# Altium schematic symbol library IC.SchLib: 282 symbols (part 1 of 3)
Pins are listed as number, name and electrical type; pins without a type are passive.

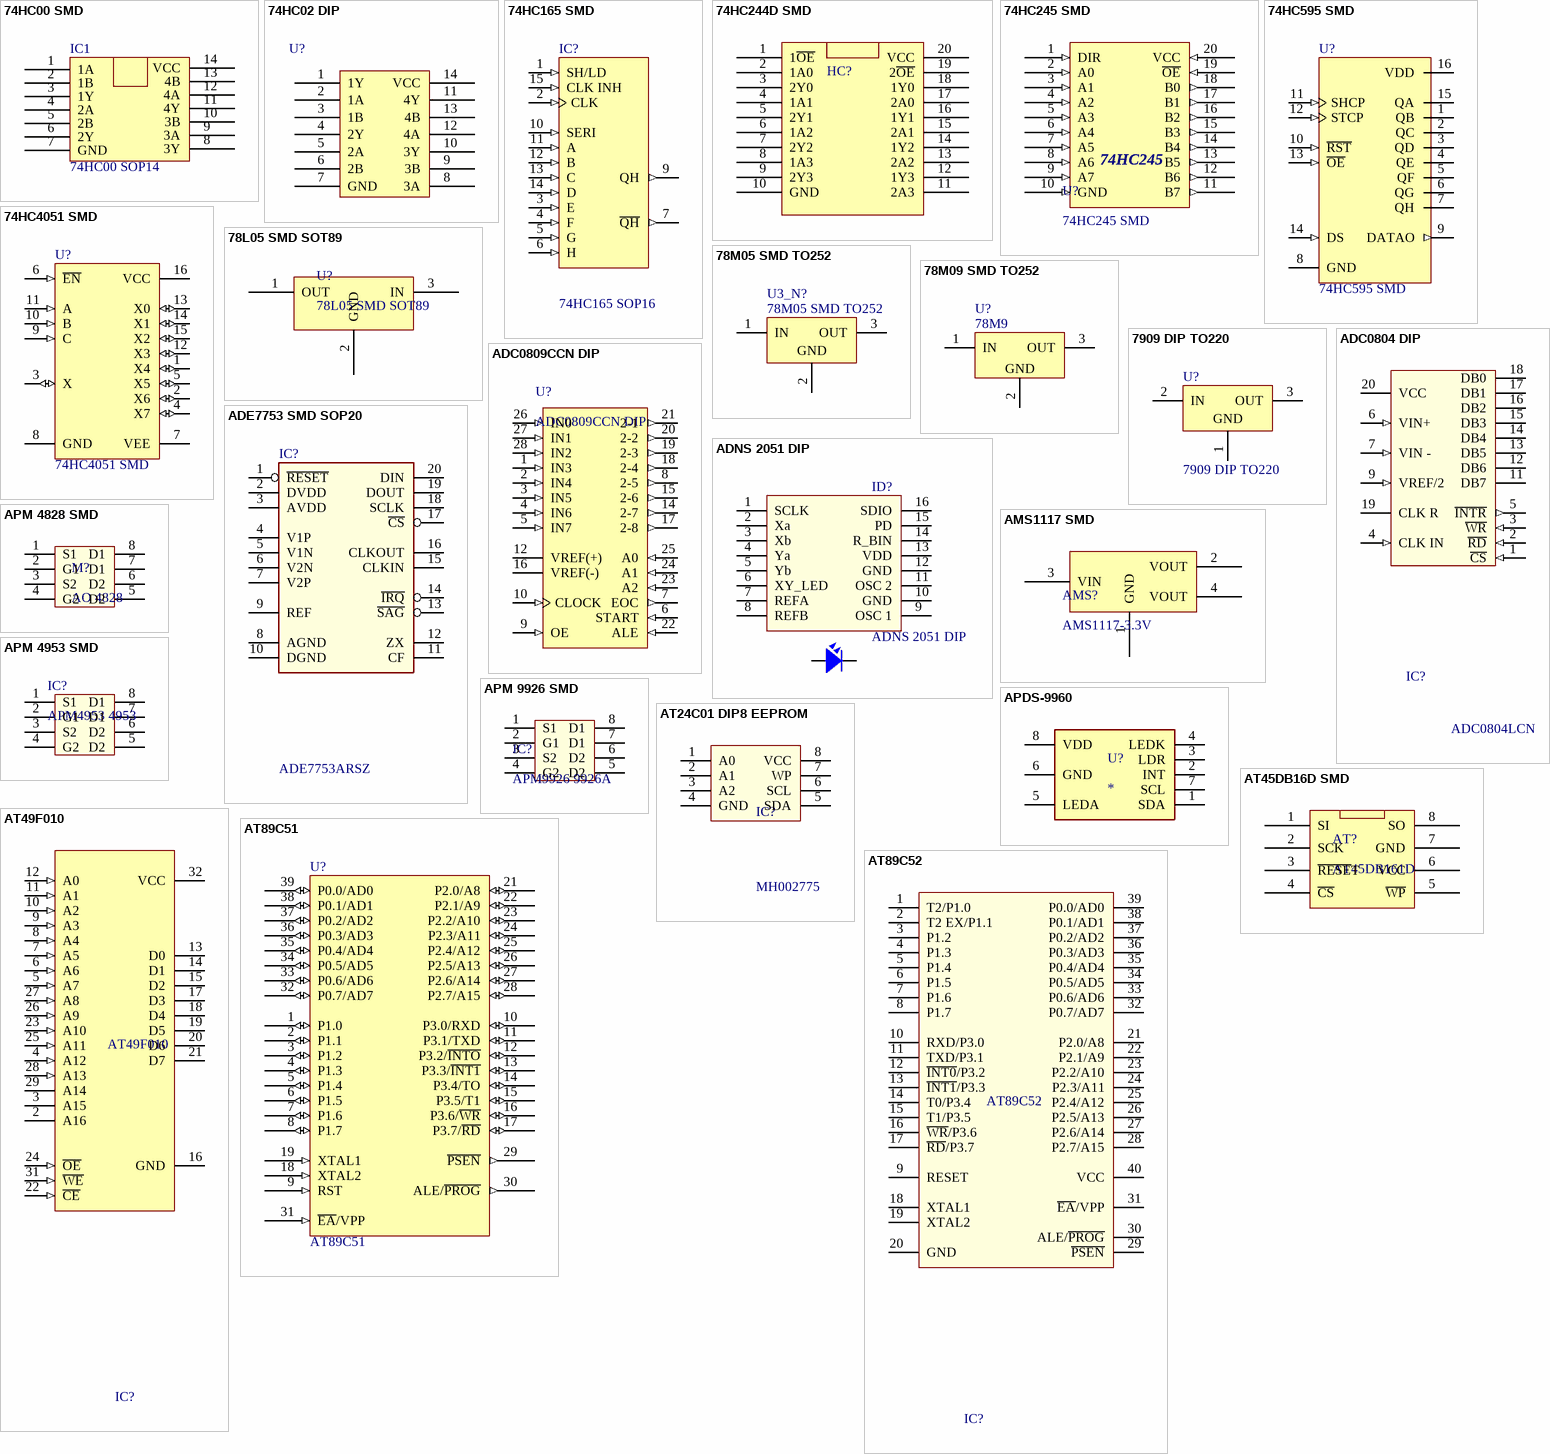
[diagram p0: symbols 74HC00 SMD to AT89C52]

## 74HC00 SMD
designator IC1, comment 74HC00 SOP14
Dán; Ten_Linh_Kien: 74HC00D SOP14; Ma_Hang: MH000703; Don_Vi: Con; Ghi_Chu: *; Kieu_Chan: *; Chung_Loai: Dán
footprint SOP 14 (SOIC, 14-Leads, Body 8.60x3.90mm, Pitch 1.27mm, IPC Medium Density)
pins: 1 1A, 2 1B, 3 1Y, 4 2A, 5 2B, 6 2Y, 7 GND, 8 3Y, 9 3A, 10 3B, 11 4Y, 12 4A, 13 4B, 14 VCC

## 74HC02 DIP
designator U?, comment 74HC02 DIP14  (value not drawn)
Cắm; Don_Vi: Con; Ma_Hang: MH001521; Ten_Linh_Kien: 74HC02 DIP14; Ghi_Chu: *; Kieu_Chan: *; Chung_Loai: Cắm
footprint dip14 (W.300/L.900)
pins: 1 1Y, 2 1A, 3 1B, 4 2Y, 5 2A, 6 2B, 7 GND, 8 3A, 9 3B, 10 3Y, 11 4Y, 12 4A, 13 4B, 14 VCC

## 74HC165 SMD
designator IC?, comment 74HC165 SOP16
Dán; Ten_Linh_Kien: 74HC165AG SMD; Don_Vi: Con; Ma_Hang: MH000710; Ghi_Chu: *; Kieu_Chan: *; Chung_Loai: Dán
footprint sop 16 (SOIC, 16-Leads, Body 9.90x3.91mm, Pitch 1.27mm, IPC Medium Density)
pins: 1 SH/LD (in), 2 CLK (in), 3 E (in), 4 F (in), 5 G (in), 6 H (in), 7 ~{QH} (out), 8 GND (power) hidden to GND, 9 QH (out), 10 SERI (in), 11 A (in), 12 B (in), 13 C (in), 14 D (in), 15 CLK INH (in), 16 VCC (power) hidden to VCC

## 74HC244D SMD
designator HC?, comment 74HC244D SOP20  (value not drawn)
Dán; Ma_Hang: MH002167; Don_Vi: Con; Ten_Linh_Kien: 74HC244D SOP20; Kieu_Chan: *; Ghi_Chu: *; Chung_Loai: Dán
footprint SIM808
pins: 1 1~{OE}, 2 1A0, 3 2Y0, 4 1A1, 5 2Y1, 6 1A2, 7 2Y2, 8 1A3, 9 2Y3, 10 GND, 11 2A3, 12 1Y3, 13 2A2, 14 1Y2, 15 2A1, 16 1Y1, 17 2A0, 18 1Y0, 19 2~{OE}, 20 VCC

## 74HC245 SMD
designator U?
Dán; Ten_Linh_Kien: 74HC245DW SSOP20 5.2MM; Don_Vi: Con; Ma_Hang: MH003571; Ghi_Chu: *; Kieu_Chan: *; Chung_Loai: Dán
footprint SOP 20 (SOIC, 20-Leads, Body 12.60x7.50mm, Pitch 1.27mm, IPC Medium Density)
pins: 1 DIR (in), 2 A0 (in), 3 A1 (in), 4 A2 (in), 5 A3 (in), 6 A4 (in), 7 A5 (in), 8 A6 (in), 9 A7 (in), 10 GND (in), 11 B7 (out), 12 B6 (out), 13 B5 (out), 14 B4 (out), 15 B3 (out), 16 B2 (out), 17 B1 (out), 18 B0 (out), 19 ~{OE} (in), 20 VCC (in)
text: 74HC245

## 74HC595 SMD
designator U?
Dán; Ten_Linh_Kien: 74HC595D SOP16; Don_Vi: Con; Ma_Hang: MH000672; Ghi_Chu: *; Kieu_Chan: *; Chung_Loai: Dán
footprint SOP 16 (SOIC, 16-Leads, Body 9.90x3.91mm, Pitch 1.27mm, IPC Medium Density)
pins: 1 QB (hiz), 2 QC (hiz), 3 QD (hiz), 4 QE (hiz), 5 QF (hiz), 6 QG (hiz), 7 QH (hiz), 8 GND (power), 9 DATAO (out), 10 ~{RST} (in), 11 SHCP (in), 12 STCP (in), 13 ~{OE} (in), 14 DS (in), 15 QA (hiz), 16 VDD (power)

## 74HC4051 SMD
designator U?
Dán; Ten_Linh_Kien: 74HC4051D 16SOIC; Don_Vi: Con; Ma_Hang: MH002284; Ghi_Chu: *; Kieu_Chan: *; Chung_Loai: Dán
footprint SOP 16 (SOIC, 16-Leads, Body 9.90x3.91mm, Pitch 1.27mm, IPC Medium Density)
pins: 1 X4 (io), 2 X6 (io), 3 X (io), 4 X7 (io), 5 X5 (io), 6 ~{EN} (in), 7 VEE (power), 8 GND (power), 9 C (in), 10 B (in), 11 A (in), 12 X3 (io), 13 X0 (io), 14 X1 (io), 15 X2 (io), 16 VCC (power)

## 78L05 SMD SOT89
designator U?
Dán; Ten_Linh_Kien: 78L05 SOT89 0.1A 5V; Don_Vi: Con; Ma_Hang: MH004845; Ghi_Chu: *; Kieu_Chan: *; Chung_Loai: Dán
footprint SOT89 (SOT89, 3-Leads, Body 4.55x2.55mm, Pitch 1.50mm, Lead Span 4.1mm, IPC Medium Density)
pins: 1 OUT, 2 GND, 3 IN

## 78M05 SMD TO252
designator U3_N?
Dán; Don_Vi: Con; Ten_Linh_Kien: 78M05 TO252; Ma_Hang: MH001917; Ghi_Chu: *; Kieu_Chan: *; Chung_Loai: Dán
footprint TO252
pins: 1 IN (power), 2 GND (power), 3 OUT (power)

## 78M09 SMD TO252
designator U?, comment 78M9
Dán; Ten_Linh_Kien: 78M09 TO252; Don_Vi: Con; Ma_Hang: MH004847; Ghi_Chu: *; Kieu_Chan: *; Chung_Loai: Dán
footprint TO252
pins: 1 IN (power), 2 GND (power), 3 OUT (power)

## 7909 DIP TO220
designator U?
Cắm; Ten_Linh_Kien: L7909CV TO220; Don_Vi: Con; Ma_Hang: MH005174; Ghi_Chu: *; Kieu_Chan: *; Chung_Loai: Cắm
footprint to220 (TO-220)
pins: 1 GND (power), 2 IN (power), 3 OUT (power)

## ADC0804 DIP
designator IC?, comment ADC0804LCN
Cắm; Ten_Linh_Kien: ADC0804LCN DIP20; Don_Vi: Con; Ma_Hang: MH002626; Ghi_Chu: *; Kieu_Chan: *; Chung_Loai: Cắm
footprint DIP20 (DIP 20, 20 PIN, W 300mil, Pin to pin 100mil)
pins: 1 ~{CS} (in), 2 ~{RD} (in), 3 ~{WR} (in), 4 CLK IN (in), 5 ~{INTR} (out), 6 VIN+ (in), 7 VIN - (in), 8 AGND (power) hidden to GND, 9 VREF/2 (in), 10 DGND (power) hidden to GND, 11 DB7 (hiz), 12 DB6 (hiz), 13 DB5 (hiz), 14 DB4 (hiz), 15 DB3 (hiz), 16 DB2 (hiz), 17 DB1 (hiz), 18 DB0 (hiz), 19 CLK R, 20 VCC (power)

## ADC0809CCN DIP
designator U?
Cắm; Ten_Linh_Kien: ADC0809CCN DIP28; Don_Vi: Con; Ma_Hang: MH002543; Ghi_Chu: *; Kieu_Chan: *; Chung_Loai: Cắm
footprint DIP28/W0.6 (DIP28/W.600, Pin to pin 100mil)
pins: 1 IN3 (in), 2 IN4 (in), 3 IN5 (in), 4 IN6 (in), 5 IN7 (in), 6 START (in), 7 EOC (out), 8 2-5 (out), 9 OE (in), 10 CLOCK (in), 11 VCC (power) hidden to VCC, 12 VREF(+) (power), 13 GND (power) hidden to GND, 14 2-7 (out), 15 2-6 (out), 16 VREF(-) (power), 17 2-8 (out), 18 2-4 (out), 19 2-3 (out), 20 2-2 (out), 21 2-1 (out), 22 ALE (in), 23 A2 (in), 24 A1 (in), 25 A0 (in), 26 IN0 (in), 27 IN1 (in), 28 IN2 (in)

## ADE7753 SMD SOP20
designator IC?, comment ADE7753ARSZ
Dán; Ten_Linh_Kien: ADE7753ARSZ SSOP20; Don_Vi: Con; Ma_Hang: MH004179; Ghi_Chu: *; Kieu_Chan: *; Chung_Loai: Dán
footprint sop 20 (SOIC, 20-Leads, Body 12.60x7.50mm, Pitch 1.27mm, IPC Medium Density)
pins: 1 ~{RESET}, 2 DVDD, 3 AVDD, 4 V1P, 5 V1N, 6 V2N, 7 V2P, 8 AGND, 9 REF, 10 DGND, 11 CF, 12 ZX, 13 ~{SAG}, 14 ~{IRQ}, 15 CLKIN, 16 CLKOUT, 17 ~{CS}, 18 SCLK, 19 DOUT, 20 DIN

## ADNS 2051 DIP
designator ID?
Cắm; Value: ADNS 2051
footprint ADNS 2051 (Foots pin for Mouse)
pins: 1 SCLK, 2 Xa, 3 Xb, 4 Ya, 5 Yb, 6 XY_LED, 7 REFA, 8 REFB, 9 OSC 1, 10 GND, 11 OSC 2, 12 GND, 13 VDD, 14 R_BIN, 15 PD, 16 SDIO, H1 A hidden, H2 A hidden, L1 A, L2 K

## AMS1117 SMD
designator AMS?, comment AMS1117-3.3V
Dán; Value: AMS1117-3.3V SOT223; Don_Vi: Con; Ma_Hang: MH000596; Ghi_Chu: *; Kieu_Chan: *; Chung_Loai: Dán
footprint SOT223
pins: 1 GND, 2 VOUT, 3 VIN, 4 VOUT

## APDS-9960
designator U?
Light to Digital Ambient Light Sensor Digital 3V 8-Pin T/R; MF: Avago Technologies; Purchase-URL: https://pricing.snapeda.com/search/part/APDS-9960/?ref=eda; Value: *; SnapEDA_Link: https://www.snapeda.com/parts/APDS-9960/Avago%20Technologies%20US%20Inc./view-part/5508989/?ref=snap; Package: None; MP: APDS-9960; Check_prices: https://www.snapeda.com/parts/APDS-9960/Avago%20Technologies%20US%20Inc./view-part/5508989/?ref=eda; Price: None; Availability: Good
footprint APDS-9960
pins: 1 SDA, 2 INT, 3 LDR, 4 LEDK, 5 LEDA, 6 GND, 7 SCL, 8 VDD

## APM 4828 SMD
designator M?, comment AO 4828
Dán; Ten_Linh_Kien: AO4828 SOP8 MOSFET N-2CH 4.5A 60V; Ma_Hang: MH005678; Don_Vi: Con; Kieu_Chan: *; Ghi_Chu: *; Chung_Loai: Dán
footprint SOp 8 (SOIC, 8-Leads, Body 4.9x3.9mm, Pitch 1.27mm, IPC High Density)
pins: 1 S1, 2 G1, 3 S2, 4 G2, 5 D2, 6 D2, 7 D1, 8 D1

## APM 4953 SMD
designator IC?, comment APM4953 4953
Dán; Ten_Linh_Kien: APM4953 4953 SOP8 P-2CH 3A 30V MOSFET; Don_Vi: Con; Ma_Hang: MH002808; Ghi_Chu: *; Kieu_Chan: *; Chung_Loai: Dán
footprint SOP 8 (SOIC, 8-Leads, Body 4.9x3.9mm, Pitch 1.27mm, IPC High Density)
pins: 1 S1, 2 G1, 3 S2, 4 G2, 5 D2, 6 D2, 7 D1, 8 D1

## APM 9926 SMD
designator IC?, comment APM9926 9926A
Dán; Ten_Linh_Kien: APM9926 9926A SOP8 N-2CH 4.5A 20V MOSFET; Ma_Hang: MH003844; Don_Vi: Con; Ghi_Chu: *; Kieu_Chan: *; Chung_Loai: Dán
footprint SOP 8 (SOIC, 8-Leads, Body 4.9x3.9mm, Pitch 1.27mm, IPC High Density)
pins: 1 S1, 2 G1, 3 S2, 4 G2, 5 D2, 6 D2, 7 D1, 8 D1

## AT24C01 DIP8 EEPROM
designator IC?, comment MH002775
Cắm; Ten_Linh_Kien: AT24C01 DIP8 EEPROM 1KBIT; Don_Vi: Con; Kieu_Chan: *; Ghi_Chu: *; Ma_Hang: MH002775; Chung_Loai: Cắm
footprint DIP8 (W.300/L.400)
pins: 1 A0, 2 A1, 3 A2, 4 GND (power), 5 SDA, 6 SCL, 7 WP, 8 VCC (power)

## AT45DB16D SMD
designator AT?, comment AT45DB161D
Dán; Ten_Linh_Kien: AT45DB161D-SU SOIC8; Don_Vi: Con; Ma_Hang: MH000608; Ghi_Chu: *; Kieu_Chan: *; Chung_Loai: Dán
footprint SOP 8
pins: 1 SI, 2 SCK, 3 ~{RESE}T, 4 ~{CS}, 5 ~{WP}, 6 VCC, 7 GND, 8 SO

## AT49F010
designator IC?
Value: AT49F010
footprint DIP32/W0.6 (DIP32/W.600, Pin to pin 100mil)
pins: 2 A16, 3 A15, 4 A12 (in), 5 A7 (in), 6 A6 (in), 7 A5 (in), 8 A4 (in), 9 A3 (in), 10 A2 (in), 11 A1 (in), 12 A0 (in), 13 D0 (hiz), 14 D1 (hiz), 15 D2 (hiz), 16 GND, 17 D3 (hiz), 18 D4 (hiz), 19 D5 (hiz), 20 D6 (hiz), 21 D7 (hiz), 22 ~{CE} (in), 23 A10 (in), 24 ~{OE} (in), 25 A11 (in), 26 A9 (in), 27 A8 (in), 28 A13 (in), 29 A14, 31 ~{WE} (in), 32 VCC

## AT89C51
designator U?
Cắm; Ten_Linh_Kien: AT89C51-24PI DIP40; Don_Vi: Con; Ma_Hang: MH002266; Ghi_Chu: *; Kieu_Chan: *; Chung_Loai: Cắm
footprint DIP40/W0.6 (40 PIN, W 600mil, Pin to pin 100mil)
pins: 1 P1.0 (io), 2 P1.1 (io), 3 P1.2 (io), 4 P1.3 (io), 5 P1.4 (io), 6 P1.5 (io), 7 P1.6 (io), 8 P1.7 (io), 9 RST (in), 10 P3.0/RXD (io), 11 P3.1/TXD (io), 12 P3.2/~{INTO} (io), 13 P3.3/~{INT1} (io), 14 P3.4/TO (io), 15 P3.5/T1 (io), 16 P3.6/~{WR} (io), 17 P3.7/~{RD} (io), 18 XTAL2 (in), 19 XTAL1 (in), 20 GND (power) hidden to GND, 21 P2.0/A8 (io), 22 P2.1/A9 (io), 23 P2.2/A10 (io), 24 P2.3/A11 (io), 25 P2.4/A12 (io), 26 P2.5/A13 (io), 27 P2.6/A14 (io), 28 P2.7/A15 (io), 29 ~{PSEN} (out), 30 ALE/~{PROG} (out), 31 ~{EA}/VPP (in), 32 P0.7/AD7 (io), 33 P0.6/AD6 (io), 34 P0.5/AD5 (io), 35 P0.4/AD4 (io), 36 P0.3/AD3 (io), 37 P0.2/AD2 (io), 38 P0.1/AD1 (io), 39 P0.0/AD0 (io), 40 VCC (power) hidden to VCC

## AT89C52
designator IC?
Cắm; Ten_Linh_Kien: AT89C52-24PC DIP40; Don_Vi: Con; Ma_Hang: MH002200; Ghi_Chu: *; Kieu _Chan: *; Chung_Loai: Cắm
footprint DIP40/W0.6 (40 PIN, W 600mil, Pin to pin 100mil)
pins: 1 T2/P1.0, 2 T2 EX/P1.1, 3 P1.2, 4 P1.3, 5 P1.4, 6 P1.5, 7 P1.6, 8 P1.7, 9 RESET, 10 RXD/P3.0, 11 TXD/P3.1, 12 ~{INT0}/P3.2, 13 ~{INT1}/P3.3, 14 T0/P3.4, 15 T1/P3.5, 16 ~{WR}/P3.6, 17 ~{RD}/P3.7, 18 XTAL1, 19 XTAL2, 20 GND (oe), 21 P2.0/A8, 22 P2.1/A9, 23 P2.2/A10, 24 P2.3/A11, 25 P2.4/A12, 26 P2.5/A13, 27 P2.6/A14, 28 P2.7/A15, 29 ~{PSEN}, 30 ALE/~{PROG}, 31 ~{EA}/VPP, 32 P0.7/AD7, 33 P0.6/AD6, 34 P0.5/AD5, 35 P0.4/AD4, 36 P0.3/AD3, 37 P0.2/AD2, 38 P0.1/AD1, 39 P0.0/AD0, 40 VCC (power)

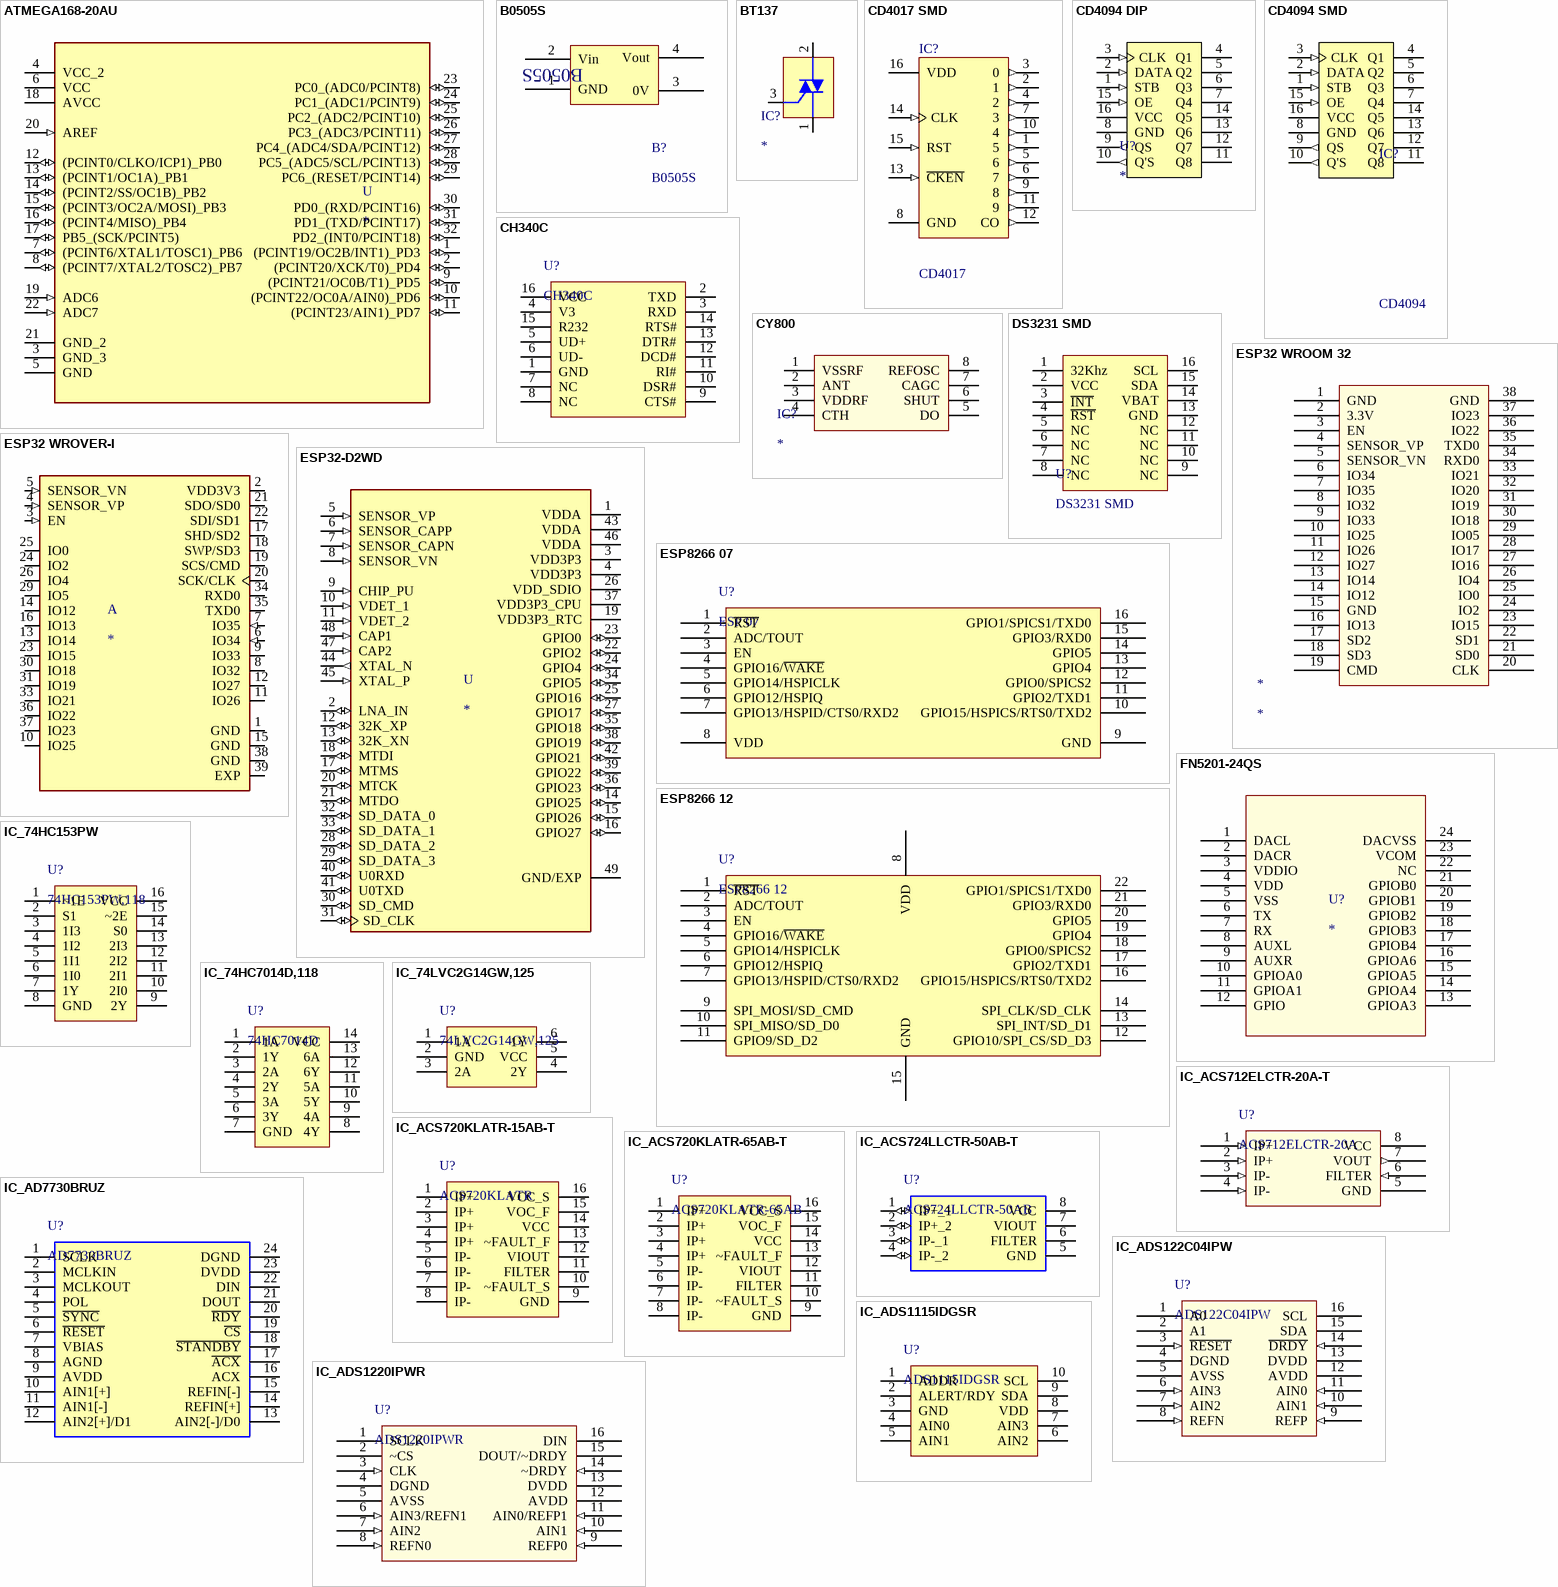
[diagram p1: symbols ATMEGA168-20AU to IC_ADS1220IPWR]

## ATMEGA168-20AU
designator U
AVR AVRÂ® ATmega Microcontroller IC 8-Bit 20MHz 16KB _8K x 16_ FLASH 32-TQFP _7x7_; MP: ATMEGA168-20AU; MF: Microchip; Availability: Unavailable; Package: TQFP-32 Microchip; Price: None; SnapEDA_Link: https://www.snapeda.com/parts/ATMEGA168-20AU/Microchip/view-part/776709/?ref=snap; Value: *
footprint ATMEGA168
pins: 1 (PCINT19/OC2B/INT1)_PD3 (io), 2 (PCINT20/XCK/T0)_PD4 (io), 3 GND_3, 4 VCC_2 (power), 5 GND, 6 VCC (power), 7 (PCINT6/XTAL1/TOSC1)_PB6 (io), 8 (PCINT7/XTAL2/TOSC2)_PB7 (io), 9 (PCINT21/OC0B/T1)_PD5 (io), 10 (PCINT22/OC0A/AIN0)_PD6 (io), 11 (PCINT23/AIN1)_PD7 (io), 12 (PCINT0/CLKO/ICP1)_PB0 (io), 13 (PCINT1/OC1A)_PB1 (io), 14 (PCINT2/SS/OC1B)_PB2 (io), 15 (PCINT3/OC2A/MOSI)_PB3 (io), 16 (PCINT4/MISO)_PB4 (io), 17 PB5_(SCK/PCINT5) (io), 18 AVCC (power), 19 ADC6 (in), 20 AREF (in), 21 GND_2, 22 ADC7 (in), 23 PC0_(ADC0/PCINT8) (io), 24 PC1_(ADC1/PCINT9) (io), 25 PC2_(ADC2/PCINT10) (io), 26 PC3_(ADC3/PCINT11) (io), 27 PC4_(ADC4/SDA/PCINT12) (io), 28 PC5_(ADC5/SCL/PCINT13) (io), 29 PC6_(RESET/PCINT14) (io), 30 PD0_(RXD/PCINT16) (io), 31 PD1_(TXD/PCINT17) (io), 32 PD2_(INT0/PCINT18) (io)

## B0505S
designator B?
Cắm; Ten_Linh_Kien: B0505S-1W SIP4 IC Converter DC-DC; Don_Vi: Con; Ma_Hang: MH003143; Ghi_Chu: *; Kieu_Chan: *; Chung_Loai: Cắm
footprint B0505S
pins: 1 GND, 2 Vin, 3 0V, 4 Vout

## BT137
designator IC?
footprint TO252
pins: 1, 2, 3 "Gate"

## CD4017 SMD
designator IC?, comment CD4017
Dán; Ten_Linh_Kien: CD4017 SOP16; Don_Vi: Con; Ma_Hang: MH002683; Ghi_Chu: *; Kieu_Chan: *; Chung_Loai: Dán
footprint Sop 16 (SOIC, 16-Leads, Body 9.90x3.91mm, Pitch 1.27mm, IPC Medium Density)
pins: 1 5 (out), 2 1 (out), 3 0 (out), 4 2 (out), 5 6 (out), 6 7 (out), 7 3 (out), 8 GND (power), 9 8 (out), 10 4 (out), 11 9 (out), 12 CO (out), 13 ~{CKEN} (in), 14 CLK (in), 15 RST (in), 16 VDD (power)

## CD4094 DIP
designator U?
footprint DIP16 (16 PIN, W 300mil, Pin to pin 100mil)
pins: 1 STB (in), 2 DATA (in), 3 CLK (in), 4 Q1 (hiz), 5 Q2 (hiz), 6 Q3 (hiz), 7 Q4 (hiz), 8 GND (power), 9 QS (out), 10 Q'S (out), 11 Q8 (hiz), 12 Q7 (hiz), 13 Q6 (hiz), 14 Q5 (hiz), 15 OE (in), 16 VCC (power)

## CD4094 SMD
designator IC?, comment CD4094
Dán; Ten_Linh_Kien: CD4094 SOP16; Don_Vi: Con; Ma_Hang: MH002295; Ghi_Chu: *; Kieu_Chan: *; Chung_Loai: Dán
footprint CD4094
pins: 1 STB (in), 2 DATA (in), 3 CLK (in), 4 Q1 (hiz), 5 Q2 (hiz), 6 Q3 (hiz), 7 Q4 (hiz), 8 GND (power), 9 QS (out), 10 Q'S (out), 11 Q8 (hiz), 12 Q7 (hiz), 13 Q6 (hiz), 14 Q5 (hiz), 15 OE (in), 16 VCC (power)

## CH340C
designator U?
USB Bridge, USB to UART USB 2.0 UART Interface; Manufacturer: Olimex; Alternate Part Number-1: NA; Manufacturer Part Number: CH340C; Case/Package: SOIC16; Supplier-1: LCSC; Supplier Part Number-1: C84681
footprint SOIC16_50_284_25X90_SMT
pins: 1 GND, 2 TXD, 3 RXD, 4 V3, 5 UD+, 6 UD-, 7 NC, 8 NC, 9 CTS#, 10 DSR#, 11 RI#, 12 DCD#, 13 DTR#, 14 RTS#, 15 R232, 16 VCC

## CY800
designator IC?
footprint SOP 8 (SOIC, 8-Leads, Body 4.9x3.9mm, Pitch 1.27mm, IPC High Density)
pins: 1 VSSRF, 2 ANT, 3 VDDRF, 4 CTH, 5 DO, 6 SHUT, 7 CAGC, 8 REFOSC

## DS3231 SMD
designator U?
SOIC
footprint SOIC 16 (SOIC, 16-Leads, Body 10.30x7.50mm, Pitch 1.27mm, IPC Medium Density)
pins: 1 32Khz (power), 2 VCC (power), 3 ~{INT} (power), 4 ~{RST} (power), 5 NC (power), 6 NC (power), 7 NC (power), 8 NC (power), 9 NC (power), 10 NC (power), 11 NC (power), 12 NC (power), 13 GND (power), 14 VBAT (power), 15 SDA (power), 16 SCL (power)

## ESP32 WROOM 32
designator *
footprint ESP32-WROOM-32D
pins: 1 GND, 2 3.3V, 3 EN, 4 SENSOR_VP, 5 SENSOR_VN, 6 IO34, 7 IO35, 8 IO32, 9 IO33, 10 IO25, 11 IO26, 12 IO27, 13 IO14, 14 IO12, 15 GND, 16 IO13, 17 SD2, 18 SD3, 19 CMD, 20 CLK, 21 SD0, 22 SD1, 23 IO15, 24 IO2, 25 IO0, 26 IO4, 27 IO16, 28 IO17, 29 IO05, 30 IO18, 31 IO19, 32 IO20, 33 IO21, 34 RXD0, 35 TXD0, 36 IO22, 37 IO23, 38 GND

## ESP32 WROVER-I
designator A
Bluetooth, WiFi 802.11b/g/n, Bluetooth v4.2 + EDR, Class 1, 2 and 3 Transceiver Module 2.4GHz ~ 2.5GHz Antenna Not Included, I-PEX Surface Mount; MP: ESP32-WROVER-I; MF: Espressif Systems; Package: Module Espressif Systems; Availability: Unavailable; Value: *; SnapEDA_Link: https://www.snapeda.com/parts/ESP32-WROVER-I/Espressif%20Systems/view-part/2298808/?ref=snap; Price: None
footprint ESP32-WROVER-I
pins: 1 GND (power), 2 VDD3V3 (power), 3 EN (in), 4 SENSOR_VP (in), 5 SENSOR_VN (in), 6 IO34 (in), 7 IO35 (in), 8 IO32 (io), 9 IO33 (io), 10 IO25 (io), 11 IO26 (io), 12 IO27 (io), 13 IO14 (io), 14 IO12 (io), 15 GND (power), 16 IO13 (io), 17 SHD/SD2 (io), 18 SWP/SD3 (io), 19 SCS/CMD (io), 20 SCK/CLK (io), 21 SDO/SD0 (io), 22 SDI/SD1 (io), 23 IO15 (io), 24 IO2 (io), 25 IO0 (io), 26 IO4 (io), 29 IO5 (io), 30 IO18 (io), 31 IO19 (io), 33 IO21 (io), 34 RXD0 (io), 35 TXD0 (io), 36 IO22 (io), 37 IO23 (io), 38 GND (power), 39 EXP (power)

## ESP32-D2WD
designator U
IC RF TxRx + MCU Bluetooth, WiFi 802.11b/g/n, Bluetooth 4.2 2.4GHz 48-VFQFN Exposed Pad; MF: Espressif Systems; MP: ESP32-D2WD; Package: VFQFN-48 Espressif Systems; Value: *; Availability: Unavailable; SnapEDA_Link: https://www.snapeda.com/parts/ESP32-D2WD/Espressif%20Systems/view-part/2291394/?ref=snap; Price: None
footprint ESP32
pins: 1 VDDA (power), 2 LNA_IN (io), 3 VDD3P3 (power), 4 VDD3P3 (power), 5 SENSOR_VP (in), 6 SENSOR_CAPP (in), 7 SENSOR_CAPN (in), 8 SENSOR_VN (in), 9 CHIP_PU (in), 10 VDET_1 (in), 11 VDET_2 (in), 12 32K_XP (io), 13 32K_XN (io), 14 GPIO25 (io), 15 GPIO26 (io), 16 GPIO27 (io), 17 MTMS (io), 18 MTDI (io), 19 VDD3P3_RTC (power), 20 MTCK (io), 21 MTDO (io), 22 GPIO2 (io), 23 GPIO0 (io), 24 GPIO4 (io), 25 GPIO16 (io), 26 VDD_SDIO (power), 27 GPIO17 (io), 28 SD_DATA_2 (io), 29 SD_DATA_3 (io), 30 SD_CMD (io), 31 SD_CLK (io), 32 SD_DATA_0 (io), 33 SD_DATA_1 (io), 34 GPIO5 (io), 35 GPIO18 (io), 36 GPIO23 (io), 37 VDD3P3_CPU (power), 38 GPIO19 (io), 39 GPIO22 (io), 40 U0RXD (io), 41 U0TXD (io), 42 GPIO21 (io), 43 VDDA (power), 44 XTAL_N (out), 45 XTAL_P (in), 46 VDDA (power), 47 CAP2 (in), 48 CAP1 (in), 49 GND/EXP (power)

## ESP8266 07
designator U?, comment ESP 07
ESP8266 07 16 Pin; IC: ESP8266-EX; Vendor: Ai-thinker
footprint ESP8266 07 (Footprint not found)
pins: 1 ~{RST} "Reset", 2 ADC/TOUT "ADC Input Or TOUT Output", 3 EN "Chip enable", 4 GPIO16/~{WAKE} "GPIO16 or Deep-Sleep Wakeup", 5 GPIO14/HSPICLK "GPIO14 or SPI CLK", 6 GPIO12/HSPIQ "GPIO12 or SPIQ", 7 GPIO13/HSPID/CTS0/RXD2 "GPIO13 or SPID", 8 VDD "Power supply", 9 GND "Power ground", 10 GPIO15/HSPICS/RTS0/TXD2 "GPIO15 or SPICS", 11 GPIO2/TXD1 "GPIO2 or TX", 12 GPIO0/SPICS2 "GPIO0 or SPICS2", 13 GPIO4 "GPIO5", 14 GPIO5 "GPIO4", 15 GPIO3/RXD0 "GPIO3 or UART RXD", 16 GPIO1/SPICS1/TXD0 "GPIO1 or UART TXD"

## ESP8266 12
designator U?
ESP8266 12 22 Pin; IC: ESP8266-EX; Vendor: Ai-thinker
footprint ESP8266 12 (Footprint not found)
pins: 1 ~{RST} "Reset", 2 ADC/TOUT "ADC Input Or TOUT Output", 3 EN "Chip enable", 4 GPIO16/~{WAKE} "GPIO16 or Deep-Sleep Wakeup", 5 GPIO14/HSPICLK "GPIO14 or SPI CLK", 6 GPIO12/HSPIQ "GPIO12 or SPIQ", 7 GPIO13/HSPID/CTS0/RXD2 "GPIO13 or SPID", 8 VDD "Power supply", 9 SPI_MOSI/SD_CMD "GPIO14 or SPI CLK", 10 SPI_MISO/SD_D0 "GPIO12 or SPIQ", 11 GPIO9/SD_D2 "GPIO13 or SPID", 12 GPIO10/SPI_CS/SD_D3 "GPIO15 or SPICS", 13 SPI_INT/SD_D1 "GPIO2 or TX", 14 SPI_CLK/SD_CLK "GPIO0 or SPICS2", 15 GND "Power ground", 16 GPIO15/HSPICS/RTS0/TXD2 "GPIO15 or SPICS", 17 GPIO2/TXD1 "GPIO2 or TX", 18 GPIO0/SPICS2 "GPIO0 or SPICS2", 19 GPIO4 "GPIO5", 20 GPIO5 "GPIO4", 21 GPIO3/RXD0 "GPIO3 or UART RXD", 22 GPIO1/SPICS1/TXD0 "GPIO1 or UART TXD"

## FN5201-24QS
designator U?
footprint FN5201-24QS (SOP, 24-Leads, Body 8,65x3,90mm, Pitch 0,64mm, IPC Medium Density)
pins: 1 DACL, 2 DACR, 3 VDDIO, 4 VDD, 5 VSS, 6 TX, 7 RX, 8 AUXL, 9 AUXR, 10 GPIOA0, 11 GPIOA1, 12 GPIO, 13 GPIOA3, 14 GPIOA4, 15 GPIOA5, 16 GPIOA6, 17 GPIOB4, 18 GPIOB3, 19 GPIOB2, 20 GPIOB1, 21 GPIOB0, 22 NC, 23 VCOM, 24 DACVSS

## IC_74HC153PW
designator U?, comment 74HC153PW,118
Multiplexer 2 x 4:1 16-TSSOP; Manufacturer: Nexperia; Alternate Part Number-1: NA; Manufacturer Part Number: 74HC153PW,118; Case/Package: TSSOP16; Supplier-1: Mouser; Supplier Part Number-1: 771-HC153PW118
footprint TSSOP16_25-59_294_54X14_SMT (TSOP, 16-Leads, Body 5.00x4.40mm, Pitch 0.65mm)
pins: 1 ~1E, 2 S1, 3 1I3, 4 1I2, 5 1I1, 6 1I0, 7 1Y, 8 GND, 9 2Y, 10 2I0, 11 2I1, 12 2I2, 13 2I3, 14 S0, 15 ~2E, 16 VCC

## IC_74HC7014D,118
designator U?, comment 74HC7014D
Buffer, Non-Inverting 6 Element 1 Bit per Element Push-Pull Output 14-SO; Manufacturer: Nexperia; Manufacturer Part Number: 74HC7014D,118; Alternate Part Number-1: NA; Case/Package: SOIC14; Supplier-1: Mouser; Supplier Part Number-1: 771-74HC7014D-T
footprint SOIC14_50_285_80X25_SMT (SOIC, 14-Leads, Body 8.56x3.90mm, Pitch 1.27mm, IPC Medium Density)
pins: 1 1A, 2 1Y, 3 2A, 4 2Y, 5 3A, 6 3Y, 7 GND, 8 4Y, 9 4A, 10 5Y, 11 5A, 12 6Y, 13 6A, 14 VCC

## IC_74LVC2G14GW,125
designator U?, comment 74LVC2G14GW,125
Inverter IC 2 Channel Schmitt Trigger SOT-363; Manufacturer: Nexperia USA Inc.; Alternate Part Number-1: NA; Manufacturer Part Number: 74LVC2G14GW,125; Case/Package: SOT-363; Supplier-1: Digikey; Supplier Part Number-1: 1727-4217-1-ND
footprint SOT363-6 (SOT363)
pins: 1 1A, 2 GND, 3 2A, 4 2Y, 5 VCC, 6 1Y

## IC_ACS712ELCTR-20A-T
designator U?, comment ACS712ELCTR-20A
Current Sensor 20A 1 Channel Hall Effect, Open Loop Bidirectional 8-SOIC (0.154", 3.90mm Width); Manufacturer: Allegro MicroSystems; Manufacturer Part Number: ACS712ELCTR-20A-T; Alternate Part Number-1: NA; Case/Package: SOIC8; Supplier-1: CATLOG COMPONENTS; Supplier Part Number-1: ACS712ELCTR-20A-T
footprint SOIC8_50_328_25X90_SMT (SOIC)
pins: 1 IP+ (in), 2 IP+ (in), 3 IP- (in), 4 IP- (in), 5 GND (power), 6 FILTER (in), 7 VOUT (out), 8 VCC (power)

## IC_ACS720KLATR-15AB-T
designator U?, comment ACS720KLATR
Current Sensor 15A 1 Channel Hall Effect, Open Loop Bidirectional 16-SOIC (0.295", 7.50mm Width); Manufacturer: Allegro MicroSystems; Manufacturer Part Number: ACS720KLATR-15AB-T; Alternate Part Number-1: NA; Case/Package: SOICW16; Supplier-1: Arrow; Supplier Part Number-1: ACS720KLATR-15AB-T
footprint SOICW16_50_440_25X76_SMT (SOICW)
pins: 1 IP+, 2 IP+, 3 IP+, 4 IP+, 5 IP-, 6 IP-, 7 IP-, 8 IP-, 9 GND, 10 ~FAULT_S, 11 FILTER, 12 VIOUT, 13 ~FAULT_F, 14 VCC, 15 VOC_F, 16 VCC_S

## IC_ACS720KLATR-65AB-T
designator U?, comment ACS720KLATR-65AB
Current Sensor 65A 1 Channel Hall Effect, Open Loop Bidirectional 16-SOIC (0.295", 7.50mm Width); Manufacturer: Allegro MicroSystems; Manufacturer Part Number: ACS720KLATR-65AB-T; Alternate Part Number-1: NA; Case/Package: SOICW16; Supplier-1: Digikey; Supplier Part Number-1: 620-1877-1-ND
footprint SOICW16_50_440_25X76_SMT (SOICW)
pins: 1 IP+, 2 IP+, 3 IP+, 4 IP+, 5 IP-, 6 IP-, 7 IP-, 8 IP-, 9 GND, 10 ~FAULT_S, 11 FILTER, 12 VIOUT, 13 ~FAULT_F, 14 VCC, 15 VOC_F, 16 VCC_S

## IC_ACS724LLCTR-50AB-T
designator U?, comment ACS724LLCTR-50AB
Current Sensor 50A 1 Channel Hall Effect, Open Loop Bidirectional 8-SOIC (0.154", 3.90mm Width); Manufacturer: Allegro MicroSystems; Manufacturer Part Number: ACS724LLCTR-50AB-T; Alternate Part Number-1: NA; Case/Package: SOIC8; Supplier-1: Arrow; Supplier Part Number-1: ACS724LLCTR-50AB-T
footprint SOIC8_50_328_25X90_SMT (SOIC)
pins: 1 IP+_1 (io), 2 IP+_2 (io), 3 IP-_1 (io), 4 IP-_2 (io), 5 GND, 6 FILTER, 7 VIOUT, 8 VCC (power)

## IC_AD7730BRUZ
designator U?, comment AD7730BRUZ
1 Channel AFE 24 Bit 125mW 24-PDIP; Manufacturer: Analog Devices; Manufacturer Part Number: AD7730BNZ; Alternate Part Number-1: NA; Case/Package: 24-DIP (0.300; Supplier-1: MOUSER; Supplier Part Number-1: AD7730BNZ
footprint PDIP24_100_393_43X43_TH (PDIP24)
pins: 1 SCLK, 2 MCLKIN, 3 MCLKOUT, 4 POL, 5 ~{SYNC}, 6 ~{RESET}, 7 VBIAS, 8 AGND, 9 AVDD (power), 10 AIN1[+], 11 AIN1[-], 12 AIN2[+]/D1, 13 AIN2[-]/D0, 14 REFIN[+], 15 REFIN[-], 16 ACX, 17 ~{ACX}, 18 ~{STANDBY}, 19 ~{CS}, 20 ~{RDY}, 21 DOUT, 22 DIN, 23 DVDD (power), 24 DGND

## IC_ADS122C04IPW
designator U?, comment ADS122C04IPW
24 Bit Analog to Digital Converter 4 Input 1 Sigma-Delta 16-TSSOP; Manufacturer: Texas Instruments; Alternate Part Number-1: NA; Manufacturer Part Number: ADS122C04IPW; Case/Package: TSSOP16; Supplier-1: MOUSER; Supplier Part Number-1: ADS122C04IPW
footprint TSSOP16_25-59_294_54X14_SMT (TSOP, 16-Leads, Body 5.00x4.40mm, Pitch 0.65mm)
pins: 1 A0, 2 A1, 3 ~{RESET} (in), 4 DGND (power), 5 AVSS (power), 6 AIN3 (in), 7 AIN2 (in), 8 REFN (in), 9 REFP (in), 10 AIN1 (in), 11 AIN0 (in), 12 AVDD (power), 13 DVDD (power), 14 ~{DRDY} (in), 15 SDA (oc), 16 SCL (oc)

## IC_ADS1115IDGSR
designator U?, comment ADS1115IDGSR
Analog to Digital Converters - ADC 16B ADC w/ Int MUX PGA Comp Osc & Ref; Manufacturer: Texas Instruments; Alternate Part Number-1: NA; Manufacturer Part Number: ADS1115IDGSR; Case/Package: MSOP-10; Supplier-1: Mouser; Supplier Part Number-1: 595-ADS1115IDGSR
footprint VSOP-10_19.6_230_57X12_SMD (VSOP Package)
pins: 1 ADDR, 2 ALERT/RDY, 3 GND, 4 AIN0, 5 AIN1, 6 AIN2, 7 AIN3, 8 VDD, 9 SDA, 10 SCL

## IC_ADS1220IPWR
designator U?, comment ADS1220IPWR
24 Bit Analog to Digital Converter 2, 4 Input 1 Sigma-Delta 16-TSSOP; Manufacturer: Texas Instruments; Alternate Part Number-1: NA; Manufacturer Part Number: ADS1220IPWR; Case/Package: TSSOP16; Supplier-1: ARROW; Supplier Part Number-1: ADS1220IPWR
footprint TSSOP16_25-59_294_54X14_SMT (TSOP, 16-Leads, Body 5.00x4.40mm, Pitch 0.65mm)
pins: 1 SCLK, 2 ~CS, 3 CLK (in), 4 DGND (power), 5 AVSS (power), 6 AIN3/REFN1 (in), 7 AIN2 (in), 8 REFN0 (in), 9 REFP0 (in), 10 AIN1 (in), 11 AIN0/REFP1 (in), 12 AVDD (power), 13 DVDD (power), 14 ~DRDY (in), 15 DOUT/~DRDY (oc), 16 DIN (oc)

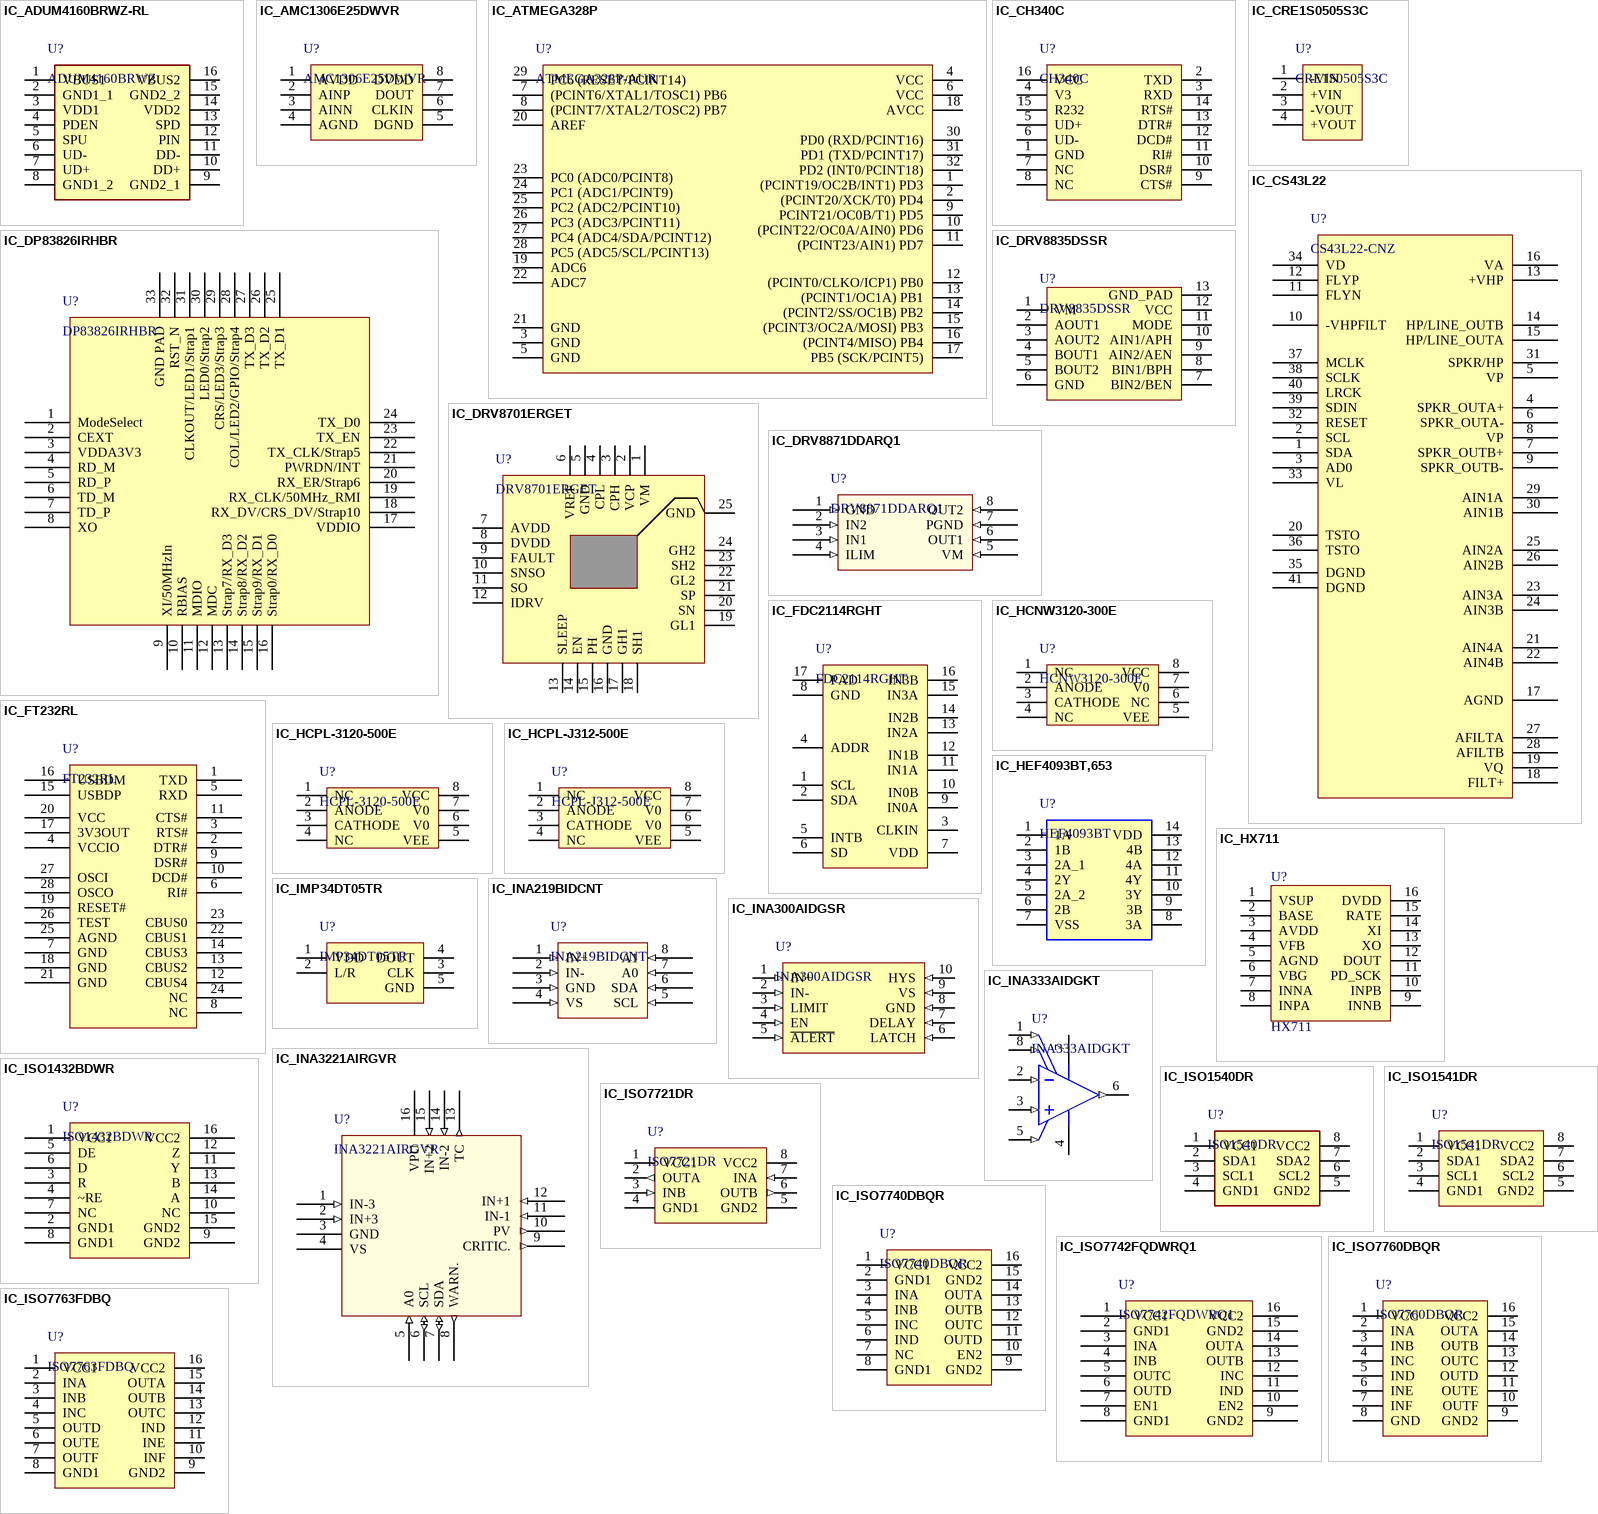
[diagram p2: symbols IC_ADUM4160BRWZ-RL to IC_ISO7763FDBQ]

## IC_ADUM4160BRWZ-RL
designator U?, comment ADUM4160BRWZ
USB Digital Isolator 5000Vrms 2 Channel 12Mbps 25kV/µs CMTI 16-SOIC (0.295", 7.50mm Width); Manufacturer: Analog Devices; Manufacturer Part Number: ADUM4160BRWZ-RL; Alternate Part Number-1: NA; Case/Package: SOICW16; Supplier-1: Arrow; Supplier Part Number-1: ADUM4160BRWZ
footprint SOICW16_50_440_25X76_SMT (SOICW)
pins: 1 VBUS1, 2 GND1_1, 3 VDD1, 4 PDEN, 5 SPU, 6 UD-, 7 UD+, 8 GND1_2, 9 GND2_1, 10 DD+, 11 DD-, 12 PIN, 13 SPD, 14 VDD2, 15 GND2_2, 16 VBUS2

## IC_AMC1306E25DWVR
designator U?, comment AMC1306E25DWVR
Isolated Module 16 bit 78k CMOS, Serial 8-SOIC; Manufacturer: Texas Instruments; Alternate Part Number-1: NA; Manufacturer Part Number: AMC1306E25DWVR; Case/Package: SOIC8; Supplier-1: ARROW; Supplier Part Number-1: AMC1306E25DWVR
footprint SOIC8_50_328_25X90_SMT (SOIC)
pins: 1 AVDD, 2 AINP, 3 AINN, 4 AGND, 5 DGND, 6 CLKIN, 7 DOUT, 8 DVDD

## IC_ATMEGA328P
designator U?, comment ATMEGA328P-AUR
AVR AVR® ATmega Microcontroller IC 8-Bit 20MHz 32KB (16K x 16) FLASH 32-TQFP (7x7); Manufacturer: Microchip Technology; Alternate Part Number-1: NA; Manufacturer Part Number: ATMEGA328P-AUR; Case/Package: 32-TQFP; Supplier-1: Arrow; Supplier Part Number-1: ATMEGA328P-AUR
footprint TQFP-32 (TQFP, 32-Leads, Body 7.10x7.10mm, Pitch 0.80mm, IPC Medium Density)
pins: 1 (PCINT19/OC2B/INT1) PD3, 2 (PCINT20/XCK/T0) PD4, 3 GND, 4 VCC, 5 GND, 6 VCC, 7 (PCINT6/XTAL1/TOSC1) PB6, 8 (PCINT7/XTAL2/TOSC2) PB7, 9 PCINT21/OC0B/T1) PD5, 10 (PCINT22/OC0A/AIN0) PD6, 11 (PCINT23/AIN1) PD7, 12 (PCINT0/CLKO/ICP1) PB0, 13 (PCINT1/OC1A) PB1, 14 (PCINT2/SS/OC1B) PB2, 15 (PCINT3/OC2A/MOSI) PB3, 16 (PCINT4/MISO) PB4, 17 PB5 (SCK/PCINT5), 18 AVCC, 19 ADC6, 20 AREF, 21 GND, 22 ADC7, 23 PC0 (ADC0/PCINT8), 24 PC1 (ADC1/PCINT9), 25 PC2 (ADC2/PCINT10), 26 PC3 (ADC3/PCINT11), 27 PC4 (ADC4/SDA/PCINT12), 28 PC5 (ADC5/SCL/PCINT13), 29 PC6 (RESET/PCINT14), 30 PD0 (RXD/PCINT16), 31 PD1 (TXD/PCINT17), 32 PD2 (INT0/PCINT18)

## IC_CH340C
designator U?, comment CH340C
USB Bridge, USB to UART USB 2.0 UART Interface; Manufacturer: Olimex; Alternate Part Number-1: NA; Manufacturer Part Number: CH340C; Case/Package: SOIC16; Supplier-1: LCSC; Supplier Part Number-1: C84681
footprint SOIC16_50_284_25X90_SMT
pins: 1 GND, 2 TXD, 3 RXD, 4 V3, 5 UD+, 6 UD-, 7 NC, 8 NC, 9 CTS#, 10 DSR#, 11 RI#, 12 DCD#, 13 DTR#, 14 RTS#, 15 R232, 16 VCC

## IC_CRE1S0505S3C
designator U?, comment CRE1S0505S3C
Isolated Module DC DC Converter 1 Output 5V 200mA 4.5V - 5.5V Input; Manufacturer: Murata; Alternate Part Number-1: NA; Manufacturer Part Number: CRE1S0505S3C; Case/Package: SC-Package; Supplier-1: RS Components; Supplier Part Number-1: CRE1S0505S3C
footprint MOD_SC-PACKAGE_100_240_78X47_TH (SC PACK)
pins: 1 -VIN, 2 +VIN, 3 -VOUT, 4 +VOUT

## IC_CS43L22
designator U?, comment CS43L22-CNZ
Audio D/A Converter ICs Low Power Stereo DAC w/ClassD Spkr Driver; Manufacturer: Cirrus Logic; Alternate Part Number-1: NA; Manufacturer Part Number: CS43L22-CNZ; Case/Package: QFN-40; Supplier-1: Mouser; Supplier Part Number-1: 777-CS43L22-CNZ
footprint QFN40_19_284_33X9_SMD
pins: 1 SDA, 2 SCL, 3 AD0, 4 SPKR_OUTA+, 5 VP, 6 SPKR_OUTA-, 7 SPKR_OUTB+, 8 VP, 9 SPKR_OUTB-, 10 -VHPFILT, 11 FLYN, 12 FLYP, 13 +VHP, 14 HP/LINE_OUTB, 15 HP/LINE_OUTA, 16 VA, 17 AGND, 18 FILT+, 19 VQ, 20 TSTO, 21 AIN4A, 22 AIN4B, 23 AIN3A, 24 AIN3B, 25 AIN2A, 26 AIN2B, 27 AFILTA, 28 AFILTB, 29 AIN1A, 30 AIN1B, 31 SPKR/HP, 32 RESET, 33 VL, 34 VD, 35 DGND, 36 TSTO, 37 MCLK, 38 SCLK, 39 SDIN, 40 LRCK, 41 DGND

## IC_DP83826IRHBR
designator U?, comment DP83826IRHBR
Ethernet ICs Low latency 10/100-Mbps PHY, MII interface and enhanced mode with an industrial temperature range 32-VQFN -40 to 85; Manufacturer: Texas Instruments; Alternate Part Number-1: NA; Manufacturer Part Number: DP83826IRHBR; Case/Package: 32-VQFN; Supplier-1: Mouser; Supplier Part Number-1: 595-DP83826IRHBR
footprint VQFN32_19_218_23X9_SMD
pins: 1 ModeSelect, 2 CEXT, 3 VDDA3V3, 4 RD_M, 5 RD_P, 6 TD_M, 7 TD_P, 8 XO, 9 XI/50MHzIn, 10 RBIAS, 11 MDIO, 12 MDC, 13 Strap7/RX_D3, 14 Strap8/RX_D2, 15 Strap9/RX_D1, 16 Strap0/RX_D0, 17 VDDIO, 18 RX_DV/CRS_DV/Strap10, 19 RX_CLK/50MHz_RMI, 20 RX_ER/Strap6, 21 PWRDN/INT, 22 TX_CLK/Strap5, 23 TX_EN, 24 TX_D0, 25 TX_D1, 26 TX_D2, 27 TX_D3, 28 COL/LED2/GPIO/Strap4, 29 CRS/LED3/Strap3, 30 LED0/Strap2, 31 CLKOUT/LED1/Strap1, 32 RST_N, 33 GND PAD

## IC_DRV8701ERGET
designator U?, comment DRV8701ERGET
Motor Driver Power MOSFET Parallel 24-VQFN (4x4); Manufacturer: Texas Instruments; Alternate Part Number-1: NA; Manufacturer Part Number: DRV8701ERGET; Case/Package: VFQFN24; Supplier-1: ARROW; Supplier Part Number-1: DRV8701ERGET
footprint VFQFN24_19.6_196_12X32_SMD_1 (CASE: VQFN24)
pins: 1 VM, 2 VCP, 3 CPH, 4 CPL, 5 GND, 6 VREF, 7 AVDD, 8 DVDD, 9 FAULT, 10 SNSO, 11 SO, 12 IDRV, 13 SLEEP, 14 EN, 15 PH, 16 GND, 17 GH1, 18 SH1, 19 GL1, 20 SN, 21 SP, 22 GL2, 23 SH2, 24 GH2, 25 GND

## IC_DRV8835DSSR
designator U?, comment DRV8835DSSR
Bipolar Motor Driver Power MOSFET Parallel 12-WSON (3x2); Manufacturer: Texas Instruments; Alternate Part Number-1: NA; Manufacturer Part Number: DRV8835DSSR; Case/Package: WSON-12; Supplier-1: ARROW; Supplier Part Number-1: DRV8835DSSR
footprint WSON-12_19.6_125_27X11_SMD (CASE: WSON)
pins: 1 VM, 2 AOUT1, 3 AOUT2, 4 BOUT1, 5 BOUT2, 6 GND, 7 BIN2/BEN, 8 BIN1/BPH, 9 AIN2/AEN, 10 AIN1/APH, 11 MODE, 12 VCC, 13 GND_PAD

## IC_DRV8871DDARQ1
designator U?, comment DRV8871DDARQ1
Unipolar Motor Driver NMOS PWM 8-SO PowerPad; Manufacturer: Texas Instruments; Alternate Part Number-1: NA; Manufacturer Part Number: DRV8871DDARQ1; Case/Package: SOIC-8; Supplier-1: ARROW; Supplier Part Number-1: DRV8871DDARQ1
footprint SOIC8_50_328_25X90_SMT (SOIC)
pins: 1 GND (in), 2 IN2 (in), 3 IN1 (in), 4 ILIM (in), 5 VM (in), 6 OUT1 (in), 7 PGND (in), 8 OUT2 (in)

## IC_FDC2114RGHT
designator U?, comment FDC2114RGHT
Capacitive Touch Proximity Only 16-WQFN (4x4); Manufacturer: Texas Instruments; Alternate Part Number-1: NA; Manufacturer Part Number: FDC2114RGHT; Case/Package: WFQFN16; Supplier-1: CATLOG COMPONENTS; Supplier Part Number-1: FDC2114RGHT
footprint WFQFN-16_19_150_31x11_SMD (WFQFN)
pins: 1 SCL, 2 SDA, 3 CLKIN, 4 ADDR, 5 INTB, 6 SD, 7 VDD, 8 GND, 9 IN0A, 10 IN0B, 11 IN1A, 12 IN1B, 13 IN2A, 14 IN2B, 15 IN3A, 16 IN3B, 17 PAD

## IC_FT232RL
designator U?, comment FT232RL
USB Bridge, USB to UART USB 2.0 UART Interface 28-SSOP; Manufacturer: FTDI; Alternate Part Number-1: NA; Manufacturer Part Number: FT232RL; Case/Package: TSSOP28; Supplier-1: Aliepress; Supplier Part Number-1: FT232RL
footprint TSSOP28_25.5_295_15X58_SMD (CASE: TSSOP)
pins: 1 TXD, 2 DTR#, 3 RTS#, 4 VCCIO, 5 RXD, 6 RI#, 7 GND, 8 NC, 9 DSR#, 10 DCD#, 11 CTS#, 12 CBUS4, 13 CBUS2, 14 CBUS3, 15 USBDP, 16 USBDM, 17 3V3OUT, 18 GND, 19 RESET#, 20 VCC, 21 GND, 22 CBUS1, 23 CBUS0, 24 NC, 25 AGND, 26 TEST, 27 OSCI, 28 OSCO

## IC_HCNW3120-300E
designator U?, comment HCNW3120-300E
2.5A Gate Driver Optical Coupling 5000Vrms 1 Channel 8-DIP Gull Wing; Manufacturer: Broadcom Avago; Alternate Part Number-1: NA; Manufacturer Part Number: HCNW3120-300E; Case/Package: SOIC8; Supplier-1: MOUSER; Supplier Part Number-1: HCNW3120-300E
footprint SOIC8_50_328_25X90_SMT (SOIC)
pins: 1 NC, 2 ANODE, 3 CATHODE, 4 NC, 5 VEE, 6 NC, 7 V0, 8 VCC

## IC_HCPL-3120-500E
designator U?, comment HCPL-3120-500E
2.5A Gate Driver Optical Coupling 3750Vrms 1 Channel 8-DIP Gull Wing; Manufacturer: Broadcom Avago; Alternate Part Number-1: NA; Manufacturer Part Number: HCPL-3120-500E; Case/Package: SOIC8; Supplier-1: MOUSER; Supplier Part Number-1: HCPL-3120-500E
footprint SOIC8_50_328_25X90_SMT (SOIC)
pins: 1 NC, 2 ANODE, 3 CATHODE, 4 NC, 5 VEE, 6 V0, 7 V0, 8 VCC

## IC_HCPL-J312-500E
designator U?, comment HCPL-J312-500E
2.5A Gate Driver Optical Coupling 3750Vrms 1 Channel 8-DIP Gull Wing; Manufacturer: Broadcom Avago; Alternate Part Number-1: NA; Manufacturer Part Number: HCPL-J312-500E; Case/Package: SOIC8; Supplier-1: MOUSER; Supplier Part Number-1: HCPL-J312-500E
footprint SOIC8_50_328_25X90_SMT (SOIC)
pins: 1 NC, 2 ANODE, 3 CATHODE, 4 NC, 5 VEE, 6 V0, 7 V0, 8 VCC

## IC_HEF4093BT,653
designator U?, comment HEF4093BT
NAND Gate IC 4 Channel Schmitt Trigger 14-SO; Manufacturer: Nexperia; Manufacturer Part Number: HEF4093BT,653; Alternate Part Number-1: NA; Case/Package: SSOP14; Supplier-1: MOUSER; Supplier Part Number-1: HEF4093BT,653
footprint SOIC14_50_285_80X25_SMT (SOIC, 14-Leads, Body 8.56x3.90mm, Pitch 1.27mm, IPC Medium Density)
pins: 1 1A, 2 1B, 3 2A_1, 4 2Y, 5 2A_2, 6 2B, 7 VSS, 8 3A, 9 3B, 10 3Y, 11 4Y, 12 4A, 13 4B, 14 VDD

## IC_HX711
designator U?, comment HX711
24-Bit Analog-to-Digital Converter (ADC) for Weigh Scales; Manufacturer Part Number: HX711 - SOIC16; Manufacturer: AVIA Semiconductor; Alternate Part Number-1: NA; Case/Package: SOIC16; Supplier-1: MOUSER; Supplier Part Number-1: HX711 - SOIC16
footprint SOIC16_50_284_25X90_SMT
pins: 1 VSUP, 2 BASE, 3 AVDD, 4 VFB, 5 AGND, 6 VBG, 7 INNA, 8 INPA, 9 INNB, 10 INPB, 11 PD_SCK, 12 DOUT, 13 XO, 14 XI, 15 RATE, 16 DVDD

## IC_IMP34DT05TR
designator U?, comment IMP34DT05TR
MEMS Microphones AUTO & INDUSTRIAL SENSORS; Manufacturer: STMicroelectronics; Alternate Part Number-1: NA; Manufacturer Part Number: IMP34DT05TR; Case/Package: HCLGA-4; Supplier-1: Mouser; Supplier Part Number-1: 511-IMP34DT05TR
footprint HCLGA-4_53_137_15X37_SMD
pins: 1 VDD, 2 L/R, 3 CLK, 4 DOUT, 5 GND

## IC_INA219BIDCNT
designator U?, comment INA219BIDCNT
Current Monitor Regulator High-Side 10mA SOT-23-8; Manufacturer: Texas Instruments; Alternate Part Number-1: NA; Manufacturer Part Number: INA219BIDCNT; Case/Package: SOT-23-8; Supplier-1: Mouser; Supplier Part Number-1: 595-INA219BIDR
footprint SOT23-8 (Case-SOT)
pins: 1 IN+ (in), 2 IN- (in), 3 GND (in), 4 VS (in), 5 SCL (in), 6 SDA (in), 7 A0 (in), 8 A1 (in)

## IC_INA300AIDGSR
designator U?, comment INA300AIDGSR
Current Sense Regulator High/Low-Side 10-VSSOP; Manufacturer: Texas Instruments; Alternate Part Number-1: NA; Manufacturer Part Number: INA300AIDGSR; Case/Package: SSOP10; Supplier-1: ARROW; Supplier Part Number-1: INA300AIDGSR
footprint SSOP10_19_236_55X11_SMD
pins: 1 IN+ (in), 2 IN- (in), 3 LIMIT (in), 4 EN (in), 5 ~{ALERT} (in), 6 LATCH (in), 7 DELAY (in), 8 GND (in), 9 VS (in), 10 HYS (in)

## IC_INA333AIDGKT
designator U?, comment INA333AIDGKT
Instrumentation Amplifier 1 Circuit Rail-to-Rail 8-VSSOP; Manufacturer: Texas Instruments; Alternate Part Number-1: NA; Manufacturer Part Number: INA333AIDGKT; Case/Package: SOIC8; Supplier-1: Mouser; Supplier Part Number-1: 595-INA333AIDGKT
footprint SOIC8_50_328_25X90_SMT (SOIC)
pins: 1 RG (in), 2 VIN- (in), 3 VIN+ (in), 4 V- (power), 5 REF (in), 6 VOUT (out), 7 V+ (power), 8 RG (in)

## IC_INA3221AIRGVR
designator U?, comment INA3221AIRGVR
Current/Voltage Monitor Regulator High-Side 16-VQFN (4x4); Manufacturer: Texas Instruments; Alternate Part Number-1: NA; Manufacturer Part Number: INA3221AIRGVR; Case/Package: VQFN16; Supplier-1: ARROW; Supplier Part Number-1: INA3221AIRGVR
footprint VQFN16_27_311_19X94_SMD (PQFN, 16-Leads, Body 4.00x4.00mm, Pitch 0.65mm, Thermal Pad 2.05x2.05mm)
pins: 1 IN-3 (in), 2 IN+3 (in), 3 GND (power), 4 VS (power), 5 A0 (in), 6 SCL (io), 7 SDA (io), 8 WARN. (out), 9 CRITIC. (out), 10 PV (out), 11 IN-1 (in), 12 IN+1 (in), 13 TC (out), 14 IN-2 (in), 15 IN+2 (in), 16 VPU (power)

## IC_ISO1432BDWR
designator U?, comment ISO1432BDWR
1/1 Transceiver, Isolated Full RS422, RS485 16-SOIC; Manufacturer: Texas Instruments; Alternate Part Number-1: NA; Manufacturer Part Number: ISO1432BDWR; Case/Package: SOICW16; Supplier-1: Mouser; Supplier Part Number-1: 595-ISO1432BDWR
footprint SOICW16_50_440_25X76_SMT (SOICW)
pins: 1 VCC1, 2 GND1, 3 R, 4 ~RE, 5 DE, 6 D, 7 NC, 8 GND1, 9 GND2, 10 NC, 11 Y, 12 Z, 13 B, 14 A, 15 GND2, 16 VCC2

## IC_ISO1540DR
designator U?, comment ISO1540DR
I²C Digital Isolator 2500Vrms 2 Channel 1Mbps 25kV/µs CMTI 8-SOIC (0.154", 3.90mm Width); Manufacturer: Texas Instruments; Alternate Part Number-1: NA; Manufacturer Part Number: ISO1540DR; Case/Package: SOIC8; Supplier-1: Mouser; Supplier Part Number-1: 595-ISO1540DR
footprint SOIC8_50_328_25X90_SMT (SOIC)
pins: 1 VCC1, 2 SDA1, 3 SCL1, 4 GND1, 5 GND2, 6 SCL2, 7 SDA2, 8 VCC2

## IC_ISO1541DR
designator U?, comment ISO1541DR
I²C Digital Isolator 2500Vrms 2 Channel 1Mbps 25kV/µs CMTI 8-SOIC (0.154", 3.90mm Width); Manufacturer: Texas Instruments; Alternate Part Number-1: NA; Manufacturer Part Number: ISO1541DR; Case/Package: SOIC8; Supplier-1: Mouser; Supplier Part Number-1: 595-ISO1541DR
footprint SOIC8_50_328_25X90_SMT (SOIC)
pins: 1 VCC1, 2 SDA1, 3 SCL1, 4 GND1, 5 GND2, 6 SCL2, 7 SDA2, 8 VCC2

## IC_ISO7721DR
designator U?, comment ISO7721DR
General Purpose Digital Isolator 3000Vrms 2 Channel 100Mbps 85kV/µs CMTI 8-SOIC (0.154", 3.90mm Width); Manufacturer: Texas Instruments; Alternate Part Number-1: NA; Manufacturer Part Number: ISO7721DR; Case/Package: SOIC8; Supplier-1: ARROW; Supplier Part Number-1: ISO7721DR
footprint SOIC8_50_328_25X90_SMT (SOIC)
pins: 1 VCC1 (power), 2 OUTA (out), 3 INB (in), 4 GND1 (power), 5 GND2 (power), 6 OUTB (out), 7 INA (in), 8 VCC2 (power)

## IC_ISO7740DBQR
designator U?, comment ISO7740DBQR
General Purpose Digital Isolator 3000Vrms 4 Channel 100Mbps 85kV/µs CMTI 16-SSOP (0.154", 3.90mm Width); Manufacturer: Texas Instruments; Alternate Part Number-1: NA; Manufacturer Part Number: ISO7740DBQR; Case/Package: SSOP-16; Supplier-1: Arrow; Supplier Part Number-1: ISO7740FQDBQQ1
footprint SSOP16_23.6_298_58X17_SMD (CASE: SSOP)
pins: 1 VCC1, 2 GND1, 3 INA, 4 INB, 5 INC, 6 IND, 7 NC, 8 GND1, 9 GND2, 10 EN2, 11 OUTD, 12 OUTC, 13 OUTB, 14 OUTA, 15 GND2, 16 VCC2

## IC_ISO7742FQDWRQ1
designator U?, comment ISO7742FQDWRQ1
General Purpose Digital Isolator 5000Vrms 4 Channel 100Mbps 40kV/µs CMTI 16-SOIC (0.295", 7.50mm Width); Manufacturer: Texas Instruments; Alternate Part Number-1: NA; Manufacturer Part Number: ISO7742FQDWRQ1; Case/Package: SOICW16; Supplier-1: ARROW; Supplier Part Number-1: ISO7742FQDWRQ1
footprint SOICW16_50_440_25X76_SMT (SOICW)
pins: 1 VCC1, 2 GND1, 3 INA, 4 INB, 5 OUTC, 6 OUTD, 7 EN1, 8 GND1, 9 GND2, 10 EN2, 11 IND, 12 INC, 13 OUTB, 14 OUTA, 15 GND2, 16 VCC2

## IC_ISO7760DBQR
designator U?, comment ISO7760DBQR
General Purpose Digital Isolator 3000Vrms 6 Channel 100Mbps 85kV/µs CMTI 16-SSOP (0.154", 3.90mm Width); Manufacturer: Texas Instruments; Alternate Part Number-1: NA; Manufacturer Part Number: ISO7760DBQR; Case/Package: SOIC16; Supplier-1: ARROW; Supplier Part Number-1: ISO7760DBQR
footprint SOIC16_50_284_25X90_SMT
pins: 1 VCC, 2 INA, 3 INB, 4 INC, 5 IND, 6 INE, 7 INF, 8 GND, 9 GND2, 10 OUTF, 11 OUTE, 12 OUTD, 13 OUTC, 14 OUTB, 15 OUTA, 16 VCC2

## IC_ISO7763FDBQ
designator U?, comment ISO7763FDBQ
General Purpose Digital Isolator 3000Vrms 6 Channel 100Mbps 85kV/µs CMTI 16-SSOP (0.154", 3.90mm Width); Manufacturer: Texas Instruments; Alternate Part Number-1: NA; Manufacturer Part Number: ISO7763FDBQ; Case/Package: SSOP16; Supplier-1: ARROW; Supplier Part Number-1: ISO7763FDBQ
footprint SSOP16_23.6_298_58X17_SMD (CASE: SSOP)
pins: 1 VCC1, 2 INA, 3 INB, 4 INC, 5 OUTD, 6 OUTE, 7 OUTF, 8 GND1, 9 GND2, 10 INF, 11 INE, 12 IND, 13 OUTC, 14 OUTB, 15 OUTA, 16 VCC2

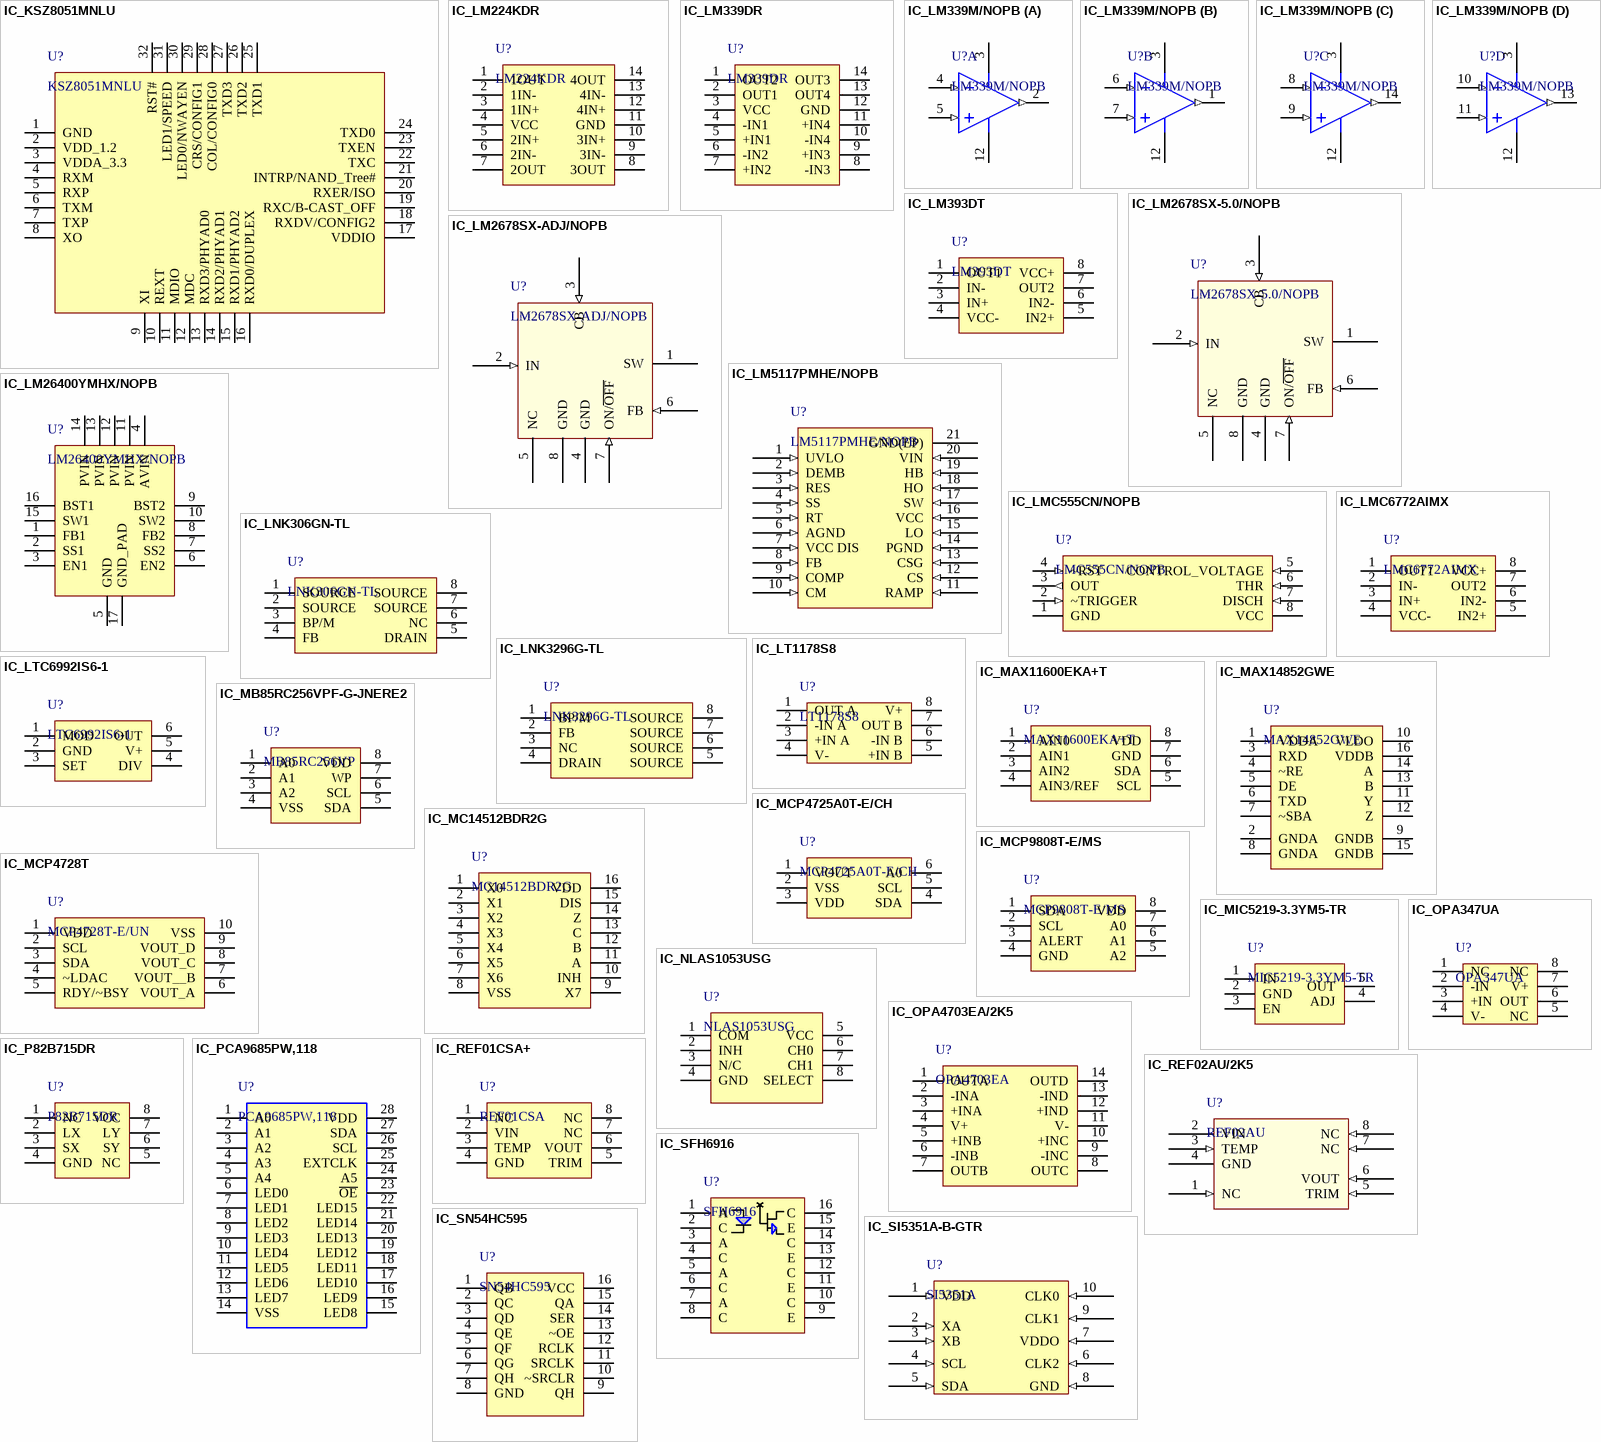
[diagram p3: symbols IC_KSZ8051MNLU to IC_SN54HC595]

## IC_KSZ8051MNLU
designator U?, comment KSZ8051MNLU
1/1 Transceiver Full MII 32-QFN (5x5); Manufacturer: Microchip Technology; Alternate Part Number-1: NA; Manufacturer Part Number: KSZ8051MNLU; Case/Package: 32-QFN (5x5); Supplier-1: Digikey; Supplier Part Number-1: KSZ8051MNLU-TR-ND
footprint QFN32_19_193_12X32_SMD (QFN Package)
pins: 1 GND, 2 VDD_1.2, 3 VDDA_3.3, 4 RXM, 5 RXP, 6 TXM, 7 TXP, 8 XO, 9 XI, 10 REXT, 11 MDIO, 12 MDC, 13 RXD3/PHYAD0, 14 RXD2/PHYAD1, 15 RXD1/PHYAD2, 16 RXD0/DUPLEX, 17 VDDIO, 18 RXDV/CONFIG2, 19 RXC/B-CAST_OFF, 20 RXER/ISO, 21 INTRP/NAND_Tree#, 22 TXC, 23 TXEN, 24 TXD0, 25 TXD1, 26 TXD2, 27 TXD3, 28 COL/CONFIG0, 29 CRS/CONFIG1, 30 LED0/NWAYEN, 31 LED1/SPEED, 32 RST#

## IC_LM224KDR
designator U?, comment LM224KDR
General Purpose Amplifier 4 Circuit 14-SOIC; Manufacturer: Texas Instruments; Alternate Part Number-1: NA; Manufacturer Part Number: LM224KDR; Case/Package: SOIC14; Supplier-1: RS COMPONENTS; Supplier Part Number-1: LM224KDR
footprint SOIC14_50_285_80X25_SMT (SOIC, 14-Leads, Body 8.56x3.90mm, Pitch 1.27mm, IPC Medium Density)
pins: 1 1OUT, 2 1IN-, 3 1IN+, 4 VCC, 5 2IN+, 6 2IN-, 7 2OUT, 8 3OUT, 9 3IN-, 10 3IN+, 11 GND, 12 4IN+, 13 4IN-, 14 4OUT

## IC_LM339DR
designator U?, comment LM339DR
Comparator Differential CMOS, MOS, Open-Collector, TTL 14-SOIC; Manufacturer: TI National Semiconductor; Alternate Part Number-1: LM339NSR; Manufacturer Part Number: LM339DR; Case/Package: TSSOP14; Supplier-1: LCSC; Supplier Part Number-1: C7948
footprint TSSOP14_25.6_296_15X55_SMD (CASE: TSSOP)
pins: 1 OUT2, 2 OUT1, 3 VCC, 4 -IN1, 5 +IN1, 6 -IN2, 7 +IN2, 8 -IN3, 9 +IN3, 10 -IN4, 11 +IN4, 12 GND, 13 OUT4, 14 OUT3

## IC_LM339M/NOPB
designator U?, comment LM339M/NOPB
Comparator General Purpose CMOS, DTL, ECL, MOS, Open-Collector, TTL 14-SOIC; Manufacturer: TI National Semiconductor; Alternate Part Number-1: NA; Manufacturer Part Number: LM339M/NOPB; Case/Package: SOIC14; Supplier-1: RS COMP; Supplier Part Number-1: LM339M/NOPB
footprint SOIC14_50_285_80X25_SMT (SOIC, 14-Leads, Body 8.56x3.90mm, Pitch 1.27mm, IPC Medium Density)
part A pins: 2 OUT1 (out), 3 V+ (power), 4 IN1- (in), 5 IN1+ (in), 12 GND (power)
part B pins: 1 OUT2 (out), 3 V+ (power), 6 IN2- (in), 7 IN2+ (in), 12 GND (power)
part C pins: 3 V+ (power), 8 IN3- (in), 9 IN3+ (in), 12 GND (power), 14 OUT3 (out)
part D pins: 3 V+ (power), 10 IN4- (in), 11 IN4+ (in), 12 GND (power), 13 OUT4 (out)

## IC_LM393DT
designator U?, comment LM393DT
Comparator General Purpose CMOS, DTL, ECL, MOS, Open-Collector, TTL 8-SO; Manufacturer: Texas Instruments; Alternate Part Number-1: NA; Manufacturer Part Number: LM393DT; Case/Package: SOIC8; Supplier-1: ARROW; Supplier Part Number-1: LM393DT
footprint SOIC8_50_328_25X90_SMT (SOIC)
pins: 1 OUT1, 2 IN-, 3 IN+, 4 VCC-, 5 IN2+, 6 IN2-, 7 OUT2, 8 VCC+

## IC_LM2678SX-5.0/NOPB
designator U?, comment LM2678SX-5.0/NOPB
Buck Switching Regulator IC Positive Fixed 5V 1 Output 5A TO-263-8, D²Pak (7 Leads + Tab), TO-263CA; Manufacturer: TI National Semiconductor; Alternate Part Number-1: LM2678SX-ADJ/NOPB; Manufacturer Part Number: LM2678SX-5.0/NOPB; Case/Package: TO-263-7; Supplier-1: MOUSER; Supplier Part Number-1: LM2678SX-5.0/NOPB
footprint TO-263-7_SMD (CASE: TO-263)
pins: 1 SW (power), 2 IN (in), 3 CB (in), 4 GND (power), 5 NC, 6 FB (in), 7 ON/~{OFF} (in), 8 GND (power)

## IC_LM2678SX-ADJ/NOPB
designator U?, comment LM2678SX-ADJ/NOPB
Buck Switching Regulator IC Positive Adjustable 1.21V 1 Output 5A TO-263-8, D²Pak (7 Leads + Tab), TO-263CA; Manufacturer: Texas Instruments; Alternate Part Number-1: NA; Manufacturer Part Number: LM2678SX-ADJ/NOPB; Case/Package: TO-263-8; Supplier-1: LCSC; Supplier Part Number-1: C40844
footprint TO-263-7_SMD (CASE: TO-263)
pins: 1 SW (power), 2 IN (in), 3 CB (in), 4 GND (power), 5 NC, 6 FB (in), 7 ON/~{OFF} (in), 8 GND (power)

## IC_LM5117PMHE/NOPB
designator U?, comment LM5117PMHE/NOPB
Buck Regulator Positive Output Step-Down DC-DC Controller IC 20-HTSSOP; Manufacturer: STMicroelectronics; Alternate Part Number-1: NA; Manufacturer Part Number: LM5117PMHE/NOPB; Case/Package: SSOP20; Supplier-1: LCSC; Supplier Part Number-1: C390088
footprint SSOP20_25.5_354_70X18_SMD (CASE: SSOP)
pins: 1 UVLO (in), 2 DEMB (in), 3 RES (in), 4 SS (in), 5 RT (in), 6 AGND (in), 7 VCC DIS (in), 8 FB (in), 9 COMP (in), 10 CM (in), 11 RAMP (in), 12 CS (in), 13 CSG (in), 14 PGND (in), 15 LO (in), 16 VCC (in), 17 SW (in), 18 HO (in), 19 HB (in), 20 VIN (in), 21 GND(EP)

## IC_LM26400YMHX/NOPB
designator U?, comment LM26400YMHX/NOPB
Buck Switching Regulator IC Positive Adjustable 0.6V 2 Output 2A 16-PowerTSSOP (0.173", 4.40mm Width); Manufacturer: TI National Semiconductor; Alternate Part Number-1: NA; Manufacturer Part Number: LM26400YMHX/NOPB; Case/Package: HTSSOP 16; Supplier-1: ARROW; Supplier Part Number-1: LM26400YMHX/NOPB
footprint HTSSOP-16_26_307_59X17_SMD (16-PowerTSSOP)
pins: 1 FB1, 2 SS1, 3 EN1, 4 AVIN, 5 GND, 6 EN2, 7 SS2, 8 FB2, 9 BST2, 10 SW2, 11 PVIN, 12 PVIN, 13 PVIN, 14 PVIN, 15 SW1, 16 BST1, 17 GND_PAD

## IC_LMC555CN/NOPB
designator U?, comment LMC555CN/NOPB
555 Type, Timer/Oscillator (Single) IC 3MHz 8-PDIP; Manufacturer: Texas Instruments; Alternate Part Number-1: NE555N; Manufacturer Part Number: LMC555CN/NOPB; Case/Package: 8-PDIP; Supplier-1: Digikey; Supplier Part Number-1: LMC555CN/NOPB-ND
footprint PDIP-8_100_393_66X66_TH (DIP-8 Package)
pins: 1 GND, 2 ~TRIGGER (in), 3 OUT (out), 4 ~RST (in), 5 CONTROL_VOLTAGE (in), 6 THR (in), 7 DISCH (in), 8 VCC (power)

## IC_LMC6772AIMX
designator U?, comment LMC6772AIMX
Comparator General Purpose Open Drain 8-SOIC; Manufacturer: TI National Semiconductor; Manufacturer Part Number: LMC6772AIMX/NOPB; Alternate Part Number-1: NA; Case/Package: SOIC8; Supplier-1: ARROW; Supplier Part Number-1: LMC6772AIMX/NOPB
footprint SOIC8_50_328_25X90_SMT (SOIC)
pins: 1 OUT1, 2 IN-, 3 IN+, 4 VCC-, 5 IN2+, 6 IN2-, 7 OUT2, 8 VCC+

## IC_LNK306GN-TL
designator U?, comment LNK306GN-TL
Converter Offline Buck, Buck-Boost, Flyback Topology 66kHz SMD-8B; Manufacturer: Power Integrations; Alternate Part Number-1: NA; Manufacturer Part Number: LNK306GN-TL; Case/Package: SMD8B; Supplier-1: Mouser; Supplier Part Number-1: 869-LNK306GN-TL
footprint SMD8B_86_430_45X80_SMD (SMD-8B)
pins: 1 SOURCE, 2 SOURCE, 3 BP/M, 4 FB, 5 DRAIN, 6 NC, 7 SOURCE, 8 SOURCE

## IC_LNK3296G-TL
designator U?, comment LNK3296G-TL
Converter Offline Buck, Buck-Boost, Flyback Topology 66kHz SMD-8C; Manufacturer: Power Integrations; Alternate Part Number-1: NA; Manufacturer Part Number: LNK3296G-TL; Case/Package: SMD-8B; Supplier-1: Mouser; Supplier Part Number-1: 869-LNK3296G-TL
footprint SMD8B_86_430_45X80_SMD (SMD-8B)
pins: 1 BP/M, 2 FB, 3 NC, 4 DRAIN, 5 SOURCE, 6 SOURCE, 7 SOURCE, 8 SOURCE

## IC_LT1178S8
designator U?, comment LT1178S8
General Purpose Amplifier 2 Circuit 8-SO; Manufacturer: Analog Devices / Linear Technology; Manufacturer Part Number: LT1178S8#PBF; Alternate Part Number-1: NA; Case/Package: SOIC8; Supplier-1: ARROW; Supplier Part Number-1: LT1178S8#PBF
footprint SOIC8_50_328_25X90_SMT (SOIC)
pins: 1 OUT A, 2 -IN A, 3 +IN A, 4 V-, 5 +IN B, 6 -IN B, 7 OUT B, 8 V+

## IC_LTC6992IS6-1
designator U?, comment LTC6992IS6-1
Oscillator, Silicon IC 3.81Hz ~ 1MHz TSOT-23-6; Manufacturer: Linear Technology/Analog Devices; Alternate Part Number-1: NA; Manufacturer Part Number: LTC6992IS6-1; Case/Package: SOT-23-6; Supplier-1: Arrow; Supplier Part Number-1: LTC6992IS6-1#TRMPBF
footprint SOT23-6 (CASE: SOT)
pins: 1 MOD, 2 GND, 3 SET, 4 DIV, 5 V+, 6 OUT

## IC_MAX11600EKA+T
designator U?, comment MAX11600EKA+T
Analog to Digital Converters - ADC 2.7V to 3.6V and 4.5V to 5.5V, Low-Power, 4-/8-/12-Channel, 2-Wire Serial 8-Bit ADCs; Manufacturer: Maxim Integrated; Alternate Part Number-1: NA; Manufacturer Part Number: MAX11600EKA+T; Case/Package: SOT-23-8; Supplier-1: Mouser; Supplier Part Number-1: 700-MAX11600EKAT
footprint SOT23-8 (Case-SOT)
pins: 1 AIN0, 2 AIN1, 3 AIN2, 4 AIN3/REF, 5 SCL, 6 SDA, 7 GND, 8 VDD

## IC_MAX14852GWE
designator U?, comment MAX14852GWE
1/1 Transceiver Full RS422, RS485 16-SOIC; Manufacturer: Maxim; Manufacturer Part Number: MAX14852GWE+T; Alternate Part Number-1: NA; Case/Package: SOICW16; Supplier-1: Mouser; Supplier Part Number-1: 700-MAX14852GWE+T
footprint SOICW16_50_440_25X76_SMT (SOICW)
pins: 1 VDDA, 2 GNDA, 3 RXD, 4 ~RE, 5 DE, 6 TXD, 7 ~SBA, 8 GNDA, 9 GNDB, 10 VLDO, 11 Y, 12 Z, 13 B, 14 A, 15 GNDB, 16 VDDB

## IC_MB85RC256VPF-G-JNERE2
designator U?, comment MB85RC256VP
FRAM (Ferroelectric RAM) Memory IC 256Kb (32K x 8) I²C 1MHz 550ns 8-SOP; Manufacturer: Fujitsu; Manufacturer Part Number: MB85RC256VPF-G-JNERE2; Alternate Part Number-1: NA; Case/Package: SOIC8; Supplier-1: LCSC; Supplier Part Number-1: C126728
footprint SOIC8_50_328_25X90_SMT (SOIC)
pins: 1 A0, 2 A1, 3 A2, 4 VSS, 5 SDA, 6 SCL, 7 WP, 8 VDD

## IC_MC14512BDR2G
designator U?, comment MC14512BDR2G
Data Selector/Multiplexer 1 x 8:1 16-SOIC; Manufacturer: ON Semiconductor; Alternate Part Number-1: NA; Manufacturer Part Number: MC14512BDR2G; Case/Package: SOIC16; Supplier-1: ARROW; Supplier Part Number-1: MC14512BDR2G
footprint SOIC16_50_284_25X90_SMT
pins: 1 X0, 2 X1, 3 X2, 4 X3, 5 X4, 6 X5, 7 X6, 8 VSS, 9 X7, 10 INH, 11 A, 12 B, 13 C, 14 Z, 15 DIS, 16 VDD

## IC_MCP4725A0T-E/CH
designator U?, comment MCP4725A0T-E/CH
12 Bit Digital to Analog Converter 1 SOT-23-6; Manufacturer: Microchip Technology; Alternate Part Number-1: NA; Manufacturer Part Number: MCP4725A0T-E/CH; Case/Package: SOT-23-6; Supplier-1: Digikey; Supplier Part Number-1: MCP4725A0T-E/CHCT-ND
footprint SOT23-6 (CASE: SOT)
pins: 1 VOUT, 2 VSS, 3 VDD, 4 SDA, 5 SCL, 6 A0

## IC_MCP4728T
designator U?, comment MCP4728T-E/UN
12 Bit Digital to Analog Converter 4 10-MSOP; Manufacturer: Microchip Technology; Alternate Part Number-1: NA; Manufacturer Part Number: MCP4728T-E/UN; Case/Package: 10-MSOP; Supplier-1: Arrow; Supplier Part Number-1: MCP4728T-E/UN
footprint MSOP-10_19.6_235_11.8X55X_SMD (IC)
pins: 1 VDD, 2 SCL, 3 SDA, 4 ~LDAC, 5 RDY/~BSY, 6 VOUT_A, 7 VOUT__B, 8 VOUT_C, 9 VOUT_D, 10 VSS

## IC_MCP9808T-E/MS
designator U?, comment MCP9808T-E/MS
Temperature Sensor Digital, Local -40°C ~ 125°C 10 b 8-MSOP; Manufacturer: Microchip; Alternate Part Number-1: NA; Manufacturer Part Number: MCP9808T-E/MS; Case/Package: MSOP8; Supplier-1: ARROW; Supplier Part Number-1: MCP9808T-E/MS
footprint MSOP-8_25.5_230_17.7X55_SMD (CASE:MSOP)
pins: 1 SDA, 2 SCL, 3 ALERT, 4 GND, 5 A2, 6 A1, 7 A0, 8 VDD

## IC_MIC5219-3.3YM5-TR
designator U?, comment MIC5219-3.3YM5-TR
Linear Voltage Regulator IC 1 Output 500mA SOT-23-5; Manufacturer: Microchip Micrel; Alternate Part Number-1: NA; Manufacturer Part Number: MIC5219-3.3YM5-TR; Case/Package: SOT-23-5; Supplier-1: ARROW; Supplier Part Number-1: MIC5219-3.3YM5-TR
footprint SOT23-5
pins: 1 IN, 2 GND, 3 EN, 4 ADJ, 5 OUT